# Altium integrated library Xilinx Virtex-II Pro X FPGA.IntLib: 1045 symbols (part 2 of 8)
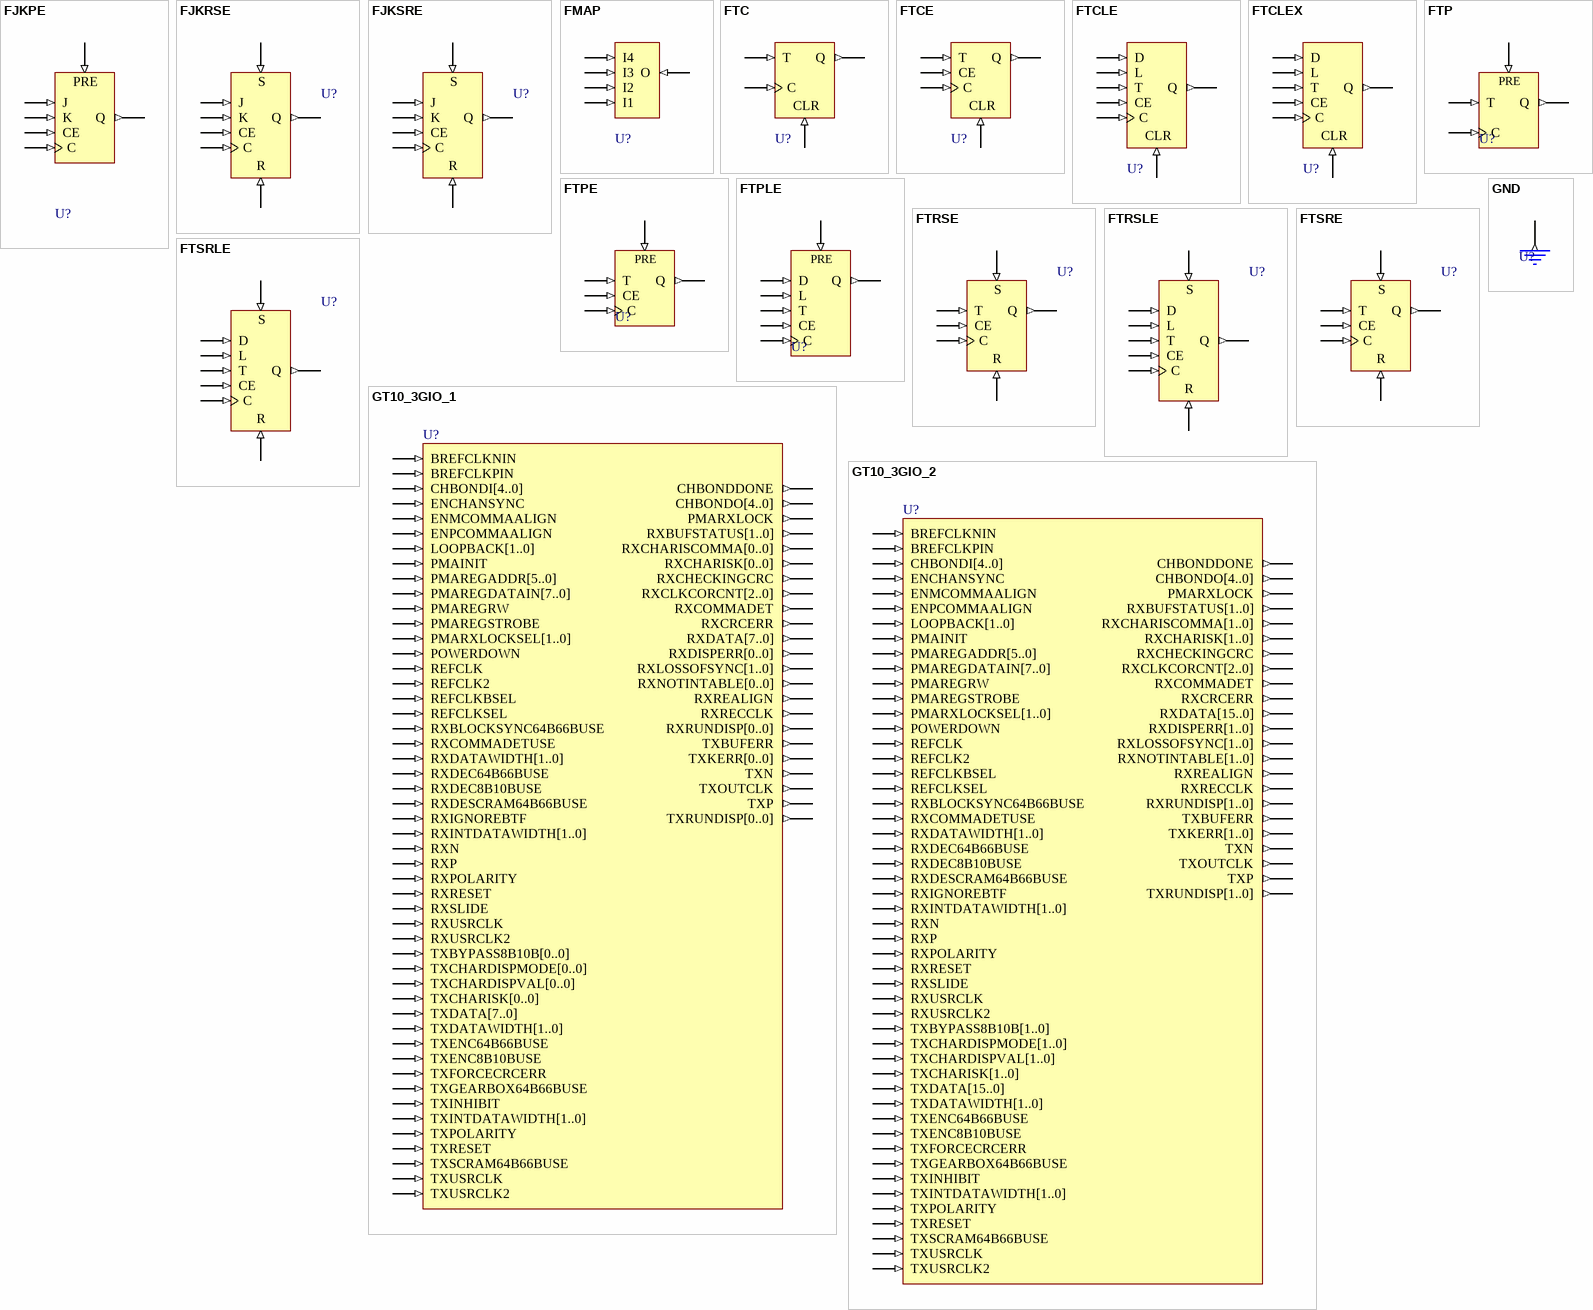
[diagram p36: symbols FJKPE to GT10_3GIO_2]

## GND
designator U?
Ground-Connection Signal Tag; FPGAVendor: Xilinx; Published: 15-Sep-2003; Publisher: Altium Limited; HelpURL: http://toolbox.xilinx.com/docsan/xilinx7/books/docs/lib/lib.pdf
pins: G (out)

## GT10_3GIO_1
designator U?
10-Gigabit Transceiver for High-Speed I/O; FPGAVendor: Xilinx; Note: Supported for Virtex-II Pro X but not for Virtex-II or Virtex-II Pro.; Published: 15-Sep-2003; Publisher: Altium Limited; HelpURL: http://toolbox.xilinx.com/docsan/xilinx7/books/docs/lib/lib.pdf
pins: BREFCLKNIN (in), BREFCLKPIN (in), CHBONDDONE (out), CHBONDI[4..0] (in), CHBONDO[4..0] (out), ENCHANSYNC (in), ENMCOMMAALIGN (in), ENPCOMMAALIGN (in), LOOPBACK[1..0] (in), PMAINIT (in), PMAREGADDR[5..0] (in), PMAREGDATAIN[7..0] (in), PMAREGRW (in), PMAREGSTROBE (in), PMARXLOCK (out), PMARXLOCKSEL[1..0] (in), POWERDOWN (in), REFCLK (in), REFCLK2 (in), REFCLKBSEL (in), REFCLKSEL (in), RXBLOCKSYNC64B66BUSE (in), RXBUFSTATUS[1..0] (out), RXCHARISCOMMA[0..0] (out), RXCHARISK[0..0] (out), RXCHECKINGCRC (out), RXCLKCORCNT[2..0] (out), RXCOMMADET (out), RXCOMMADETUSE (in), RXCRCERR (out), RXDATA[7..0] (out), RXDATAWIDTH[1..0] (in), RXDEC8B10BUSE (in), RXDEC64B66BUSE (in), RXDESCRAM64B66BUSE (in), RXDISPERR[0..0] (out), RXIGNOREBTF (in), RXINTDATAWIDTH[1..0] (in), RXLOSSOFSYNC[1..0] (out), RXN (in), RXNOTINTABLE[0..0] (out), RXP (in), RXPOLARITY (in), RXREALIGN (out), RXRECCLK (out), RXRESET (in), RXRUNDISP[0..0] (out), RXSLIDE (in), RXUSRCLK (in), RXUSRCLK2 (in), TXBUFERR (out), TXBYPASS8B10B[0..0] (in), TXCHARDISPMODE[0..0] (in), TXCHARDISPVAL[0..0] (in), TXCHARISK[0..0] (in), TXDATA[7..0] (in), TXDATAWIDTH[1..0] (in), TXENC8B10BUSE (in), TXENC64B66BUSE (in), TXFORCECRCERR (in), TXGEARBOX64B66BUSE (in), TXINHIBIT (in), TXINTDATAWIDTH[1..0] (in), TXKERR[0..0] (out), TXN (out), TXOUTCLK (out), TXP (out), TXPOLARITY (in), TXRESET (in), TXRUNDISP[0..0] (out), TXSCRAM64B66BUSE (in), TXUSRCLK (in), TXUSRCLK2 (in)

## GT10_3GIO_2
designator U?
10-Gigabit Transceiver for High-Speed I/O; FPGAVendor: Xilinx; Note: Supported for Virtex-II Pro X but not for Virtex-II or Virtex-II Pro.; Published: 15-Sep-2003; Publisher: Altium Limited; HelpURL: http://toolbox.xilinx.com/docsan/xilinx7/books/docs/lib/lib.pdf
pins: BREFCLKNIN (in), BREFCLKPIN (in), CHBONDDONE (out), CHBONDI[4..0] (in), CHBONDO[4..0] (out), ENCHANSYNC (in), ENMCOMMAALIGN (in), ENPCOMMAALIGN (in), LOOPBACK[1..0] (in), PMAINIT (in), PMAREGADDR[5..0] (in), PMAREGDATAIN[7..0] (in), PMAREGRW (in), PMAREGSTROBE (in), PMARXLOCK (out), PMARXLOCKSEL[1..0] (in), POWERDOWN (in), REFCLK (in), REFCLK2 (in), REFCLKBSEL (in), REFCLKSEL (in), RXBLOCKSYNC64B66BUSE (in), RXBUFSTATUS[1..0] (out), RXCHARISCOMMA[1..0] (out), RXCHARISK[1..0] (out), RXCHECKINGCRC (out), RXCLKCORCNT[2..0] (out), RXCOMMADET (out), RXCOMMADETUSE (in), RXCRCERR (out), RXDATA[15..0] (out), RXDATAWIDTH[1..0] (in), RXDEC8B10BUSE (in), RXDEC64B66BUSE (in), RXDESCRAM64B66BUSE (in), RXDISPERR[1..0] (out), RXIGNOREBTF (in), RXINTDATAWIDTH[1..0] (in), RXLOSSOFSYNC[1..0] (out), RXN (in), RXNOTINTABLE[1..0] (out), RXP (in), RXPOLARITY (in), RXREALIGN (out), RXRECCLK (out), RXRESET (in), RXRUNDISP[1..0] (out), RXSLIDE (in), RXUSRCLK (in), RXUSRCLK2 (in), TXBUFERR (out), TXBYPASS8B10B[1..0] (in), TXCHARDISPMODE[1..0] (in), TXCHARDISPVAL[1..0] (in), TXCHARISK[1..0] (in), TXDATA[15..0] (in), TXDATAWIDTH[1..0] (in), TXENC8B10BUSE (in), TXENC64B66BUSE (in), TXFORCECRCERR (in), TXGEARBOX64B66BUSE (in), TXINHIBIT (in), TXINTDATAWIDTH[1..0] (in), TXKERR[1..0] (out), TXN (out), TXOUTCLK (out), TXP (out), TXPOLARITY (in), TXRESET (in), TXRUNDISP[1..0] (out), TXSCRAM64B66BUSE (in), TXUSRCLK (in), TXUSRCLK2 (in)

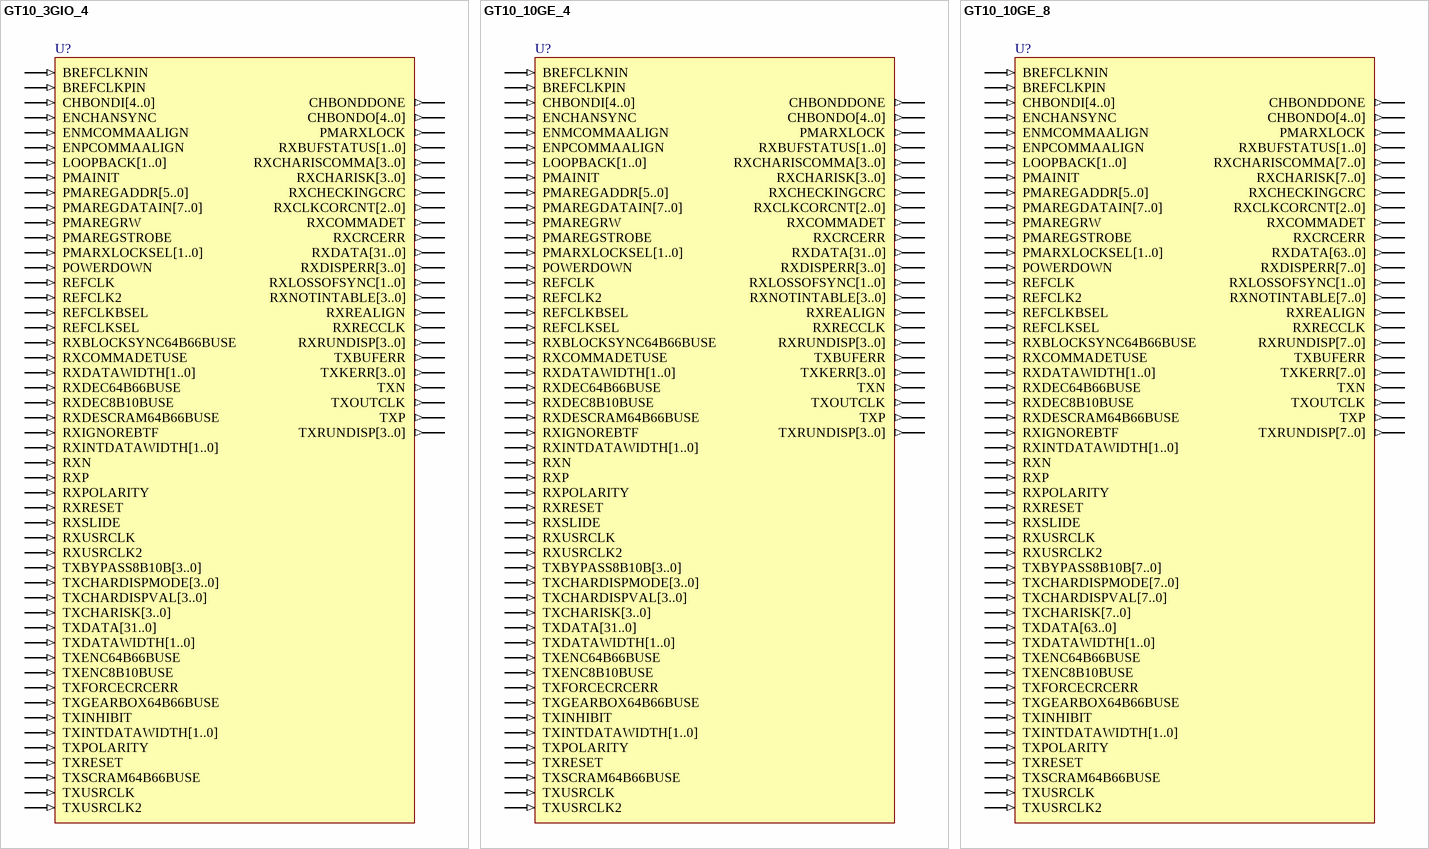
[diagram p5: symbols GT10_3GIO_4 to GT10_10GE_8]

## GT10_3GIO_4
designator U?
10-Gigabit Transceiver for High-Speed I/O; FPGAVendor: Xilinx; Note: Supported for Virtex-II Pro X but not for Virtex-II or Virtex-II Pro.; Published: 15-Sep-2003; Publisher: Altium Limited; HelpURL: http://toolbox.xilinx.com/docsan/xilinx7/books/docs/lib/lib.pdf
pins: BREFCLKNIN (in), BREFCLKPIN (in), CHBONDDONE (out), CHBONDI[4..0] (in), CHBONDO[4..0] (out), ENCHANSYNC (in), ENMCOMMAALIGN (in), ENPCOMMAALIGN (in), LOOPBACK[1..0] (in), PMAINIT (in), PMAREGADDR[5..0] (in), PMAREGDATAIN[7..0] (in), PMAREGRW (in), PMAREGSTROBE (in), PMARXLOCK (out), PMARXLOCKSEL[1..0] (in), POWERDOWN (in), REFCLK (in), REFCLK2 (in), REFCLKBSEL (in), REFCLKSEL (in), RXBLOCKSYNC64B66BUSE (in), RXBUFSTATUS[1..0] (out), RXCHARISCOMMA[3..0] (out), RXCHARISK[3..0] (out), RXCHECKINGCRC (out), RXCLKCORCNT[2..0] (out), RXCOMMADET (out), RXCOMMADETUSE (in), RXCRCERR (out), RXDATA[31..0] (out), RXDATAWIDTH[1..0] (in), RXDEC8B10BUSE (in), RXDEC64B66BUSE (in), RXDESCRAM64B66BUSE (in), RXDISPERR[3..0] (out), RXIGNOREBTF (in), RXINTDATAWIDTH[1..0] (in), RXLOSSOFSYNC[1..0] (out), RXN (in), RXNOTINTABLE[3..0] (out), RXP (in), RXPOLARITY (in), RXREALIGN (out), RXRECCLK (out), RXRESET (in), RXRUNDISP[3..0] (out), RXSLIDE (in), RXUSRCLK (in), RXUSRCLK2 (in), TXBUFERR (out), TXBYPASS8B10B[3..0] (in), TXCHARDISPMODE[3..0] (in), TXCHARDISPVAL[3..0] (in), TXCHARISK[3..0] (in), TXDATA[31..0] (in), TXDATAWIDTH[1..0] (in), TXENC8B10BUSE (in), TXENC64B66BUSE (in), TXFORCECRCERR (in), TXGEARBOX64B66BUSE (in), TXINHIBIT (in), TXINTDATAWIDTH[1..0] (in), TXKERR[3..0] (out), TXN (out), TXOUTCLK (out), TXP (out), TXPOLARITY (in), TXRESET (in), TXRUNDISP[3..0] (out), TXSCRAM64B66BUSE (in), TXUSRCLK (in), TXUSRCLK2 (in)

## GT10_10GE_4
designator U?
10-Gigabit Transceiver for High-Speed I/O; FPGAVendor: Xilinx; Note: Supported for Virtex-II Pro X but not for Virtex-II or Virtex-II Pro.; Published: 15-Sep-2003; Publisher: Altium Limited; HelpURL: http://toolbox.xilinx.com/docsan/xilinx7/books/docs/lib/lib.pdf
pins: BREFCLKNIN (in), BREFCLKPIN (in), CHBONDDONE (out), CHBONDI[4..0] (in), CHBONDO[4..0] (out), ENCHANSYNC (in), ENMCOMMAALIGN (in), ENPCOMMAALIGN (in), LOOPBACK[1..0] (in), PMAINIT (in), PMAREGADDR[5..0] (in), PMAREGDATAIN[7..0] (in), PMAREGRW (in), PMAREGSTROBE (in), PMARXLOCK (out), PMARXLOCKSEL[1..0] (in), POWERDOWN (in), REFCLK (in), REFCLK2 (in), REFCLKBSEL (in), REFCLKSEL (in), RXBLOCKSYNC64B66BUSE (in), RXBUFSTATUS[1..0] (out), RXCHARISCOMMA[3..0] (out), RXCHARISK[3..0] (out), RXCHECKINGCRC (out), RXCLKCORCNT[2..0] (out), RXCOMMADET (out), RXCOMMADETUSE (in), RXCRCERR (out), RXDATA[31..0] (out), RXDATAWIDTH[1..0] (in), RXDEC8B10BUSE (in), RXDEC64B66BUSE (in), RXDESCRAM64B66BUSE (in), RXDISPERR[3..0] (out), RXIGNOREBTF (in), RXINTDATAWIDTH[1..0] (in), RXLOSSOFSYNC[1..0] (out), RXN (in), RXNOTINTABLE[3..0] (out), RXP (in), RXPOLARITY (in), RXREALIGN (out), RXRECCLK (out), RXRESET (in), RXRUNDISP[3..0] (out), RXSLIDE (in), RXUSRCLK (in), RXUSRCLK2 (in), TXBUFERR (out), TXBYPASS8B10B[3..0] (in), TXCHARDISPMODE[3..0] (in), TXCHARDISPVAL[3..0] (in), TXCHARISK[3..0] (in), TXDATA[31..0] (in), TXDATAWIDTH[1..0] (in), TXENC8B10BUSE (in), TXENC64B66BUSE (in), TXFORCECRCERR (in), TXGEARBOX64B66BUSE (in), TXINHIBIT (in), TXINTDATAWIDTH[1..0] (in), TXKERR[3..0] (out), TXN (out), TXOUTCLK (out), TXP (out), TXPOLARITY (in), TXRESET (in), TXRUNDISP[3..0] (out), TXSCRAM64B66BUSE (in), TXUSRCLK (in), TXUSRCLK2 (in)

## GT10_10GE_8
designator U?
10-Gigabit Transceiver for High-Speed I/O; FPGAVendor: Xilinx; Note: Supported for Virtex-II Pro X but not for Virtex-II or Virtex-II Pro.; Published: 15-Sep-2003; Publisher: Altium Limited; HelpURL: http://toolbox.xilinx.com/docsan/xilinx7/books/docs/lib/lib.pdf
pins: BREFCLKNIN (in), BREFCLKPIN (in), CHBONDDONE (out), CHBONDI[4..0] (in), CHBONDO[4..0] (out), ENCHANSYNC (in), ENMCOMMAALIGN (in), ENPCOMMAALIGN (in), LOOPBACK[1..0] (in), PMAINIT (in), PMAREGADDR[5..0] (in), PMAREGDATAIN[7..0] (in), PMAREGRW (in), PMAREGSTROBE (in), PMARXLOCK (out), PMARXLOCKSEL[1..0] (in), POWERDOWN (in), REFCLK (in), REFCLK2 (in), REFCLKBSEL (in), REFCLKSEL (in), RXBLOCKSYNC64B66BUSE (in), RXBUFSTATUS[1..0] (out), RXCHARISCOMMA[7..0] (out), RXCHARISK[7..0] (out), RXCHECKINGCRC (out), RXCLKCORCNT[2..0] (out), RXCOMMADET (out), RXCOMMADETUSE (in), RXCRCERR (out), RXDATA[63..0] (out), RXDATAWIDTH[1..0] (in), RXDEC8B10BUSE (in), RXDEC64B66BUSE (in), RXDESCRAM64B66BUSE (in), RXDISPERR[7..0] (out), RXIGNOREBTF (in), RXINTDATAWIDTH[1..0] (in), RXLOSSOFSYNC[1..0] (out), RXN (in), RXNOTINTABLE[7..0] (out), RXP (in), RXPOLARITY (in), RXREALIGN (out), RXRECCLK (out), RXRESET (in), RXRUNDISP[7..0] (out), RXSLIDE (in), RXUSRCLK (in), RXUSRCLK2 (in), TXBUFERR (out), TXBYPASS8B10B[7..0] (in), TXCHARDISPMODE[7..0] (in), TXCHARDISPVAL[7..0] (in), TXCHARISK[7..0] (in), TXDATA[63..0] (in), TXDATAWIDTH[1..0] (in), TXENC8B10BUSE (in), TXENC64B66BUSE (in), TXFORCECRCERR (in), TXGEARBOX64B66BUSE (in), TXINHIBIT (in), TXINTDATAWIDTH[1..0] (in), TXKERR[7..0] (out), TXN (out), TXOUTCLK (out), TXP (out), TXPOLARITY (in), TXRESET (in), TXRUNDISP[7..0] (out), TXSCRAM64B66BUSE (in), TXUSRCLK (in), TXUSRCLK2 (in)

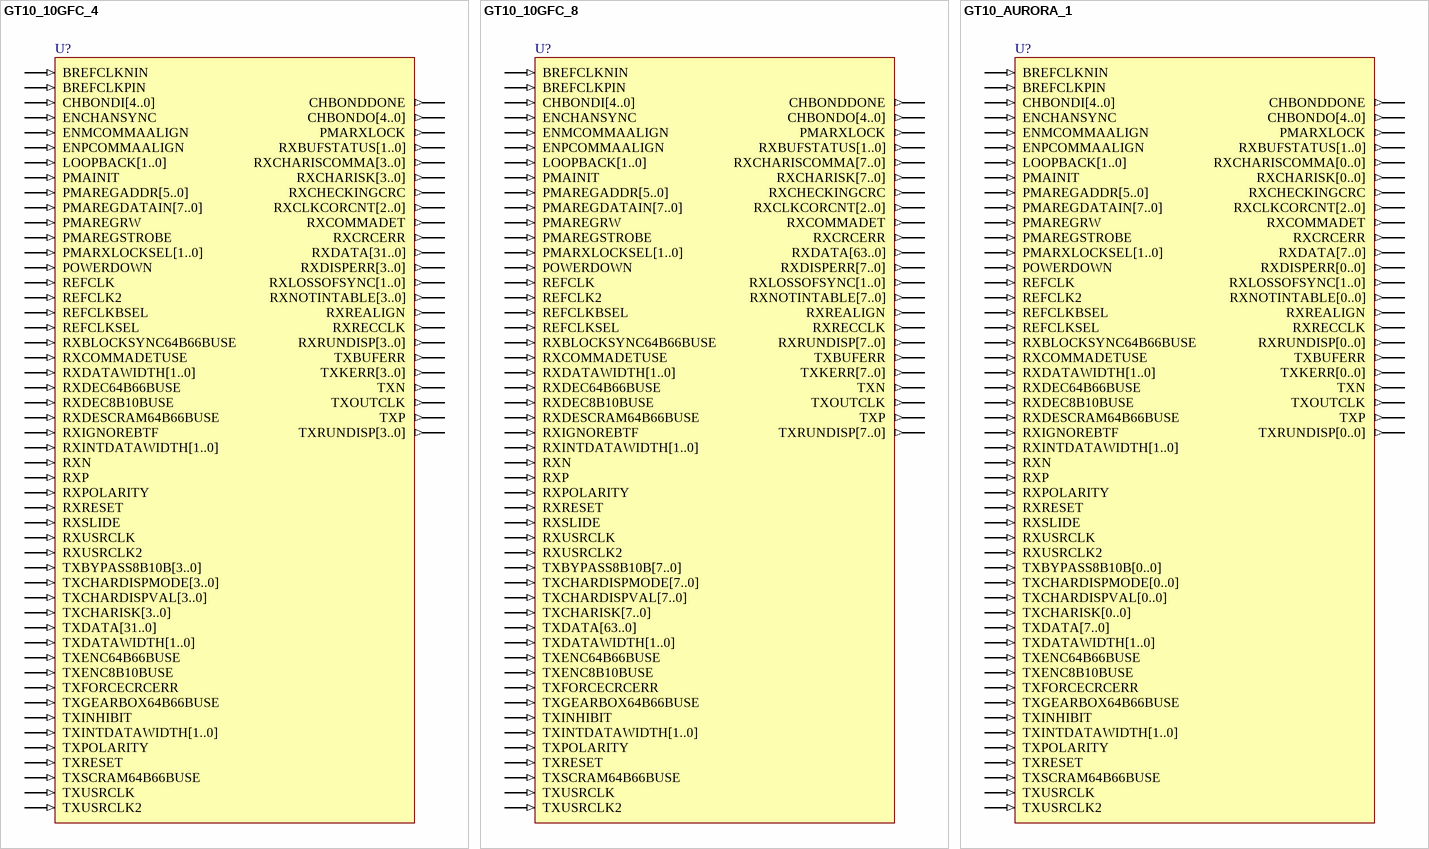
[diagram p6: symbols GT10_10GFC_4 to GT10_AURORA_1]

## GT10_10GFC_4
designator U?
10-Gigabit Transceiver for High-Speed I/O; FPGAVendor: Xilinx; Note: Supported for Virtex-II Pro X but not for Virtex-II or Virtex-II Pro.; Published: 15-Sep-2003; Publisher: Altium Limited; HelpURL: http://toolbox.xilinx.com/docsan/xilinx7/books/docs/lib/lib.pdf
pins: BREFCLKNIN (in), BREFCLKPIN (in), CHBONDDONE (out), CHBONDI[4..0] (in), CHBONDO[4..0] (out), ENCHANSYNC (in), ENMCOMMAALIGN (in), ENPCOMMAALIGN (in), LOOPBACK[1..0] (in), PMAINIT (in), PMAREGADDR[5..0] (in), PMAREGDATAIN[7..0] (in), PMAREGRW (in), PMAREGSTROBE (in), PMARXLOCK (out), PMARXLOCKSEL[1..0] (in), POWERDOWN (in), REFCLK (in), REFCLK2 (in), REFCLKBSEL (in), REFCLKSEL (in), RXBLOCKSYNC64B66BUSE (in), RXBUFSTATUS[1..0] (out), RXCHARISCOMMA[3..0] (out), RXCHARISK[3..0] (out), RXCHECKINGCRC (out), RXCLKCORCNT[2..0] (out), RXCOMMADET (out), RXCOMMADETUSE (in), RXCRCERR (out), RXDATA[31..0] (out), RXDATAWIDTH[1..0] (in), RXDEC8B10BUSE (in), RXDEC64B66BUSE (in), RXDESCRAM64B66BUSE (in), RXDISPERR[3..0] (out), RXIGNOREBTF (in), RXINTDATAWIDTH[1..0] (in), RXLOSSOFSYNC[1..0] (out), RXN (in), RXNOTINTABLE[3..0] (out), RXP (in), RXPOLARITY (in), RXREALIGN (out), RXRECCLK (out), RXRESET (in), RXRUNDISP[3..0] (out), RXSLIDE (in), RXUSRCLK (in), RXUSRCLK2 (in), TXBUFERR (out), TXBYPASS8B10B[3..0] (in), TXCHARDISPMODE[3..0] (in), TXCHARDISPVAL[3..0] (in), TXCHARISK[3..0] (in), TXDATA[31..0] (in), TXDATAWIDTH[1..0] (in), TXENC8B10BUSE (in), TXENC64B66BUSE (in), TXFORCECRCERR (in), TXGEARBOX64B66BUSE (in), TXINHIBIT (in), TXINTDATAWIDTH[1..0] (in), TXKERR[3..0] (out), TXN (out), TXOUTCLK (out), TXP (out), TXPOLARITY (in), TXRESET (in), TXRUNDISP[3..0] (out), TXSCRAM64B66BUSE (in), TXUSRCLK (in), TXUSRCLK2 (in)

## GT10_10GFC_8
designator U?
10-Gigabit Transceiver for High-Speed I/O; FPGAVendor: Xilinx; Note: Supported for Virtex-II Pro X but not for Virtex-II or Virtex-II Pro.; Published: 15-Sep-2003; Publisher: Altium Limited; HelpURL: http://toolbox.xilinx.com/docsan/xilinx7/books/docs/lib/lib.pdf
pins: BREFCLKNIN (in), BREFCLKPIN (in), CHBONDDONE (out), CHBONDI[4..0] (in), CHBONDO[4..0] (out), ENCHANSYNC (in), ENMCOMMAALIGN (in), ENPCOMMAALIGN (in), LOOPBACK[1..0] (in), PMAINIT (in), PMAREGADDR[5..0] (in), PMAREGDATAIN[7..0] (in), PMAREGRW (in), PMAREGSTROBE (in), PMARXLOCK (out), PMARXLOCKSEL[1..0] (in), POWERDOWN (in), REFCLK (in), REFCLK2 (in), REFCLKBSEL (in), REFCLKSEL (in), RXBLOCKSYNC64B66BUSE (in), RXBUFSTATUS[1..0] (out), RXCHARISCOMMA[7..0] (out), RXCHARISK[7..0] (out), RXCHECKINGCRC (out), RXCLKCORCNT[2..0] (out), RXCOMMADET (out), RXCOMMADETUSE (in), RXCRCERR (out), RXDATA[63..0] (out), RXDATAWIDTH[1..0] (in), RXDEC8B10BUSE (in), RXDEC64B66BUSE (in), RXDESCRAM64B66BUSE (in), RXDISPERR[7..0] (out), RXIGNOREBTF (in), RXINTDATAWIDTH[1..0] (in), RXLOSSOFSYNC[1..0] (out), RXN (in), RXNOTINTABLE[7..0] (out), RXP (in), RXPOLARITY (in), RXREALIGN (out), RXRECCLK (out), RXRESET (in), RXRUNDISP[7..0] (out), RXSLIDE (in), RXUSRCLK (in), RXUSRCLK2 (in), TXBUFERR (out), TXBYPASS8B10B[7..0] (in), TXCHARDISPMODE[7..0] (in), TXCHARDISPVAL[7..0] (in), TXCHARISK[7..0] (in), TXDATA[63..0] (in), TXDATAWIDTH[1..0] (in), TXENC8B10BUSE (in), TXENC64B66BUSE (in), TXFORCECRCERR (in), TXGEARBOX64B66BUSE (in), TXINHIBIT (in), TXINTDATAWIDTH[1..0] (in), TXKERR[7..0] (out), TXN (out), TXOUTCLK (out), TXP (out), TXPOLARITY (in), TXRESET (in), TXRUNDISP[7..0] (out), TXSCRAM64B66BUSE (in), TXUSRCLK (in), TXUSRCLK2 (in)

## GT10_AURORA_1
designator U?
10-Gigabit Transceiver for High-Speed I/O; FPGAVendor: Xilinx; Note: Supported for Virtex-II Pro X but not for Virtex-II or Virtex-II Pro.; Published: 15-Sep-2003; Publisher: Altium Limited; HelpURL: http://toolbox.xilinx.com/docsan/xilinx7/books/docs/lib/lib.pdf
pins: BREFCLKNIN (in), BREFCLKPIN (in), CHBONDDONE (out), CHBONDI[4..0] (in), CHBONDO[4..0] (out), ENCHANSYNC (in), ENMCOMMAALIGN (in), ENPCOMMAALIGN (in), LOOPBACK[1..0] (in), PMAINIT (in), PMAREGADDR[5..0] (in), PMAREGDATAIN[7..0] (in), PMAREGRW (in), PMAREGSTROBE (in), PMARXLOCK (out), PMARXLOCKSEL[1..0] (in), POWERDOWN (in), REFCLK (in), REFCLK2 (in), REFCLKBSEL (in), REFCLKSEL (in), RXBLOCKSYNC64B66BUSE (in), RXBUFSTATUS[1..0] (out), RXCHARISCOMMA[0..0] (out), RXCHARISK[0..0] (out), RXCHECKINGCRC (out), RXCLKCORCNT[2..0] (out), RXCOMMADET (out), RXCOMMADETUSE (in), RXCRCERR (out), RXDATA[7..0] (out), RXDATAWIDTH[1..0] (in), RXDEC8B10BUSE (in), RXDEC64B66BUSE (in), RXDESCRAM64B66BUSE (in), RXDISPERR[0..0] (out), RXIGNOREBTF (in), RXINTDATAWIDTH[1..0] (in), RXLOSSOFSYNC[1..0] (out), RXN (in), RXNOTINTABLE[0..0] (out), RXP (in), RXPOLARITY (in), RXREALIGN (out), RXRECCLK (out), RXRESET (in), RXRUNDISP[0..0] (out), RXSLIDE (in), RXUSRCLK (in), RXUSRCLK2 (in), TXBUFERR (out), TXBYPASS8B10B[0..0] (in), TXCHARDISPMODE[0..0] (in), TXCHARDISPVAL[0..0] (in), TXCHARISK[0..0] (in), TXDATA[7..0] (in), TXDATAWIDTH[1..0] (in), TXENC8B10BUSE (in), TXENC64B66BUSE (in), TXFORCECRCERR (in), TXGEARBOX64B66BUSE (in), TXINHIBIT (in), TXINTDATAWIDTH[1..0] (in), TXKERR[0..0] (out), TXN (out), TXOUTCLK (out), TXP (out), TXPOLARITY (in), TXRESET (in), TXRUNDISP[0..0] (out), TXSCRAM64B66BUSE (in), TXUSRCLK (in), TXUSRCLK2 (in)

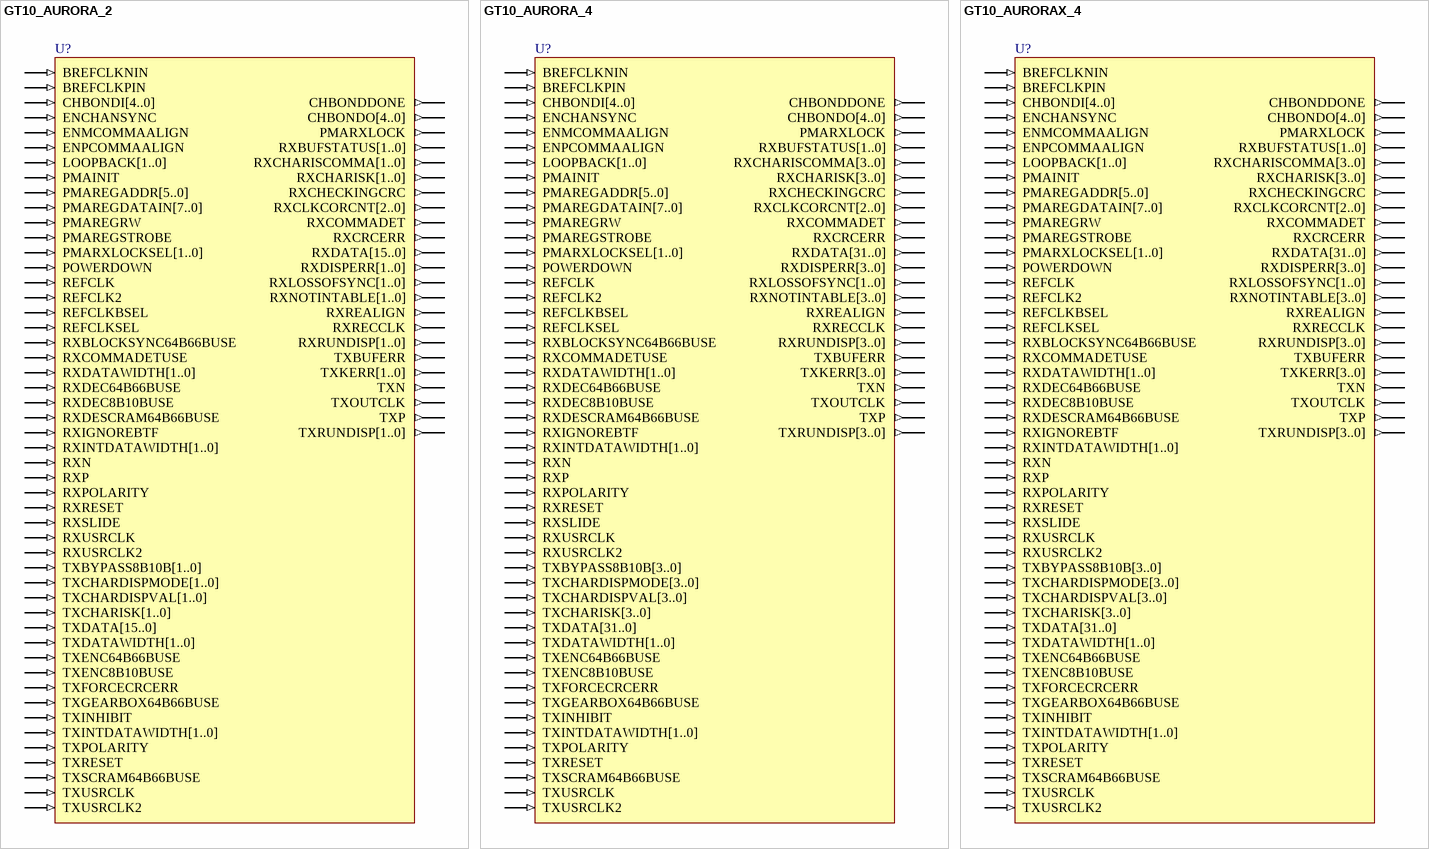
[diagram p7: symbols GT10_AURORA_2 to GT10_AURORAX_4]

## GT10_AURORA_2
designator U?
10-Gigabit Transceiver for High-Speed I/O; FPGAVendor: Xilinx; Note: Supported for Virtex-II Pro X but not for Virtex-II or Virtex-II Pro.; Published: 15-Sep-2003; Publisher: Altium Limited; HelpURL: http://toolbox.xilinx.com/docsan/xilinx7/books/docs/lib/lib.pdf
pins: BREFCLKNIN (in), BREFCLKPIN (in), CHBONDDONE (out), CHBONDI[4..0] (in), CHBONDO[4..0] (out), ENCHANSYNC (in), ENMCOMMAALIGN (in), ENPCOMMAALIGN (in), LOOPBACK[1..0] (in), PMAINIT (in), PMAREGADDR[5..0] (in), PMAREGDATAIN[7..0] (in), PMAREGRW (in), PMAREGSTROBE (in), PMARXLOCK (out), PMARXLOCKSEL[1..0] (in), POWERDOWN (in), REFCLK (in), REFCLK2 (in), REFCLKBSEL (in), REFCLKSEL (in), RXBLOCKSYNC64B66BUSE (in), RXBUFSTATUS[1..0] (out), RXCHARISCOMMA[1..0] (out), RXCHARISK[1..0] (out), RXCHECKINGCRC (out), RXCLKCORCNT[2..0] (out), RXCOMMADET (out), RXCOMMADETUSE (in), RXCRCERR (out), RXDATA[15..0] (out), RXDATAWIDTH[1..0] (in), RXDEC8B10BUSE (in), RXDEC64B66BUSE (in), RXDESCRAM64B66BUSE (in), RXDISPERR[1..0] (out), RXIGNOREBTF (in), RXINTDATAWIDTH[1..0] (in), RXLOSSOFSYNC[1..0] (out), RXN (in), RXNOTINTABLE[1..0] (out), RXP (in), RXPOLARITY (in), RXREALIGN (out), RXRECCLK (out), RXRESET (in), RXRUNDISP[1..0] (out), RXSLIDE (in), RXUSRCLK (in), RXUSRCLK2 (in), TXBUFERR (out), TXBYPASS8B10B[1..0] (in), TXCHARDISPMODE[1..0] (in), TXCHARDISPVAL[1..0] (in), TXCHARISK[1..0] (in), TXDATA[15..0] (in), TXDATAWIDTH[1..0] (in), TXENC8B10BUSE (in), TXENC64B66BUSE (in), TXFORCECRCERR (in), TXGEARBOX64B66BUSE (in), TXINHIBIT (in), TXINTDATAWIDTH[1..0] (in), TXKERR[1..0] (out), TXN (out), TXOUTCLK (out), TXP (out), TXPOLARITY (in), TXRESET (in), TXRUNDISP[1..0] (out), TXSCRAM64B66BUSE (in), TXUSRCLK (in), TXUSRCLK2 (in)

## GT10_AURORA_4
designator U?
10-Gigabit Transceiver for High-Speed I/O; FPGAVendor: Xilinx; Note: Supported for Virtex-II Pro X but not for Virtex-II or Virtex-II Pro.; Published: 15-Sep-2003; Publisher: Altium Limited; HelpURL: http://toolbox.xilinx.com/docsan/xilinx7/books/docs/lib/lib.pdf
pins: BREFCLKNIN (in), BREFCLKPIN (in), CHBONDDONE (out), CHBONDI[4..0] (in), CHBONDO[4..0] (out), ENCHANSYNC (in), ENMCOMMAALIGN (in), ENPCOMMAALIGN (in), LOOPBACK[1..0] (in), PMAINIT (in), PMAREGADDR[5..0] (in), PMAREGDATAIN[7..0] (in), PMAREGRW (in), PMAREGSTROBE (in), PMARXLOCK (out), PMARXLOCKSEL[1..0] (in), POWERDOWN (in), REFCLK (in), REFCLK2 (in), REFCLKBSEL (in), REFCLKSEL (in), RXBLOCKSYNC64B66BUSE (in), RXBUFSTATUS[1..0] (out), RXCHARISCOMMA[3..0] (out), RXCHARISK[3..0] (out), RXCHECKINGCRC (out), RXCLKCORCNT[2..0] (out), RXCOMMADET (out), RXCOMMADETUSE (in), RXCRCERR (out), RXDATA[31..0] (out), RXDATAWIDTH[1..0] (in), RXDEC8B10BUSE (in), RXDEC64B66BUSE (in), RXDESCRAM64B66BUSE (in), RXDISPERR[3..0] (out), RXIGNOREBTF (in), RXINTDATAWIDTH[1..0] (in), RXLOSSOFSYNC[1..0] (out), RXN (in), RXNOTINTABLE[3..0] (out), RXP (in), RXPOLARITY (in), RXREALIGN (out), RXRECCLK (out), RXRESET (in), RXRUNDISP[3..0] (out), RXSLIDE (in), RXUSRCLK (in), RXUSRCLK2 (in), TXBUFERR (out), TXBYPASS8B10B[3..0] (in), TXCHARDISPMODE[3..0] (in), TXCHARDISPVAL[3..0] (in), TXCHARISK[3..0] (in), TXDATA[31..0] (in), TXDATAWIDTH[1..0] (in), TXENC8B10BUSE (in), TXENC64B66BUSE (in), TXFORCECRCERR (in), TXGEARBOX64B66BUSE (in), TXINHIBIT (in), TXINTDATAWIDTH[1..0] (in), TXKERR[3..0] (out), TXN (out), TXOUTCLK (out), TXP (out), TXPOLARITY (in), TXRESET (in), TXRUNDISP[3..0] (out), TXSCRAM64B66BUSE (in), TXUSRCLK (in), TXUSRCLK2 (in)

## GT10_AURORAX_4
designator U?
10-Gigabit Transceiver for High-Speed I/O; FPGAVendor: Xilinx; Note: Supported for Virtex-II Pro X but not for Virtex-II or Virtex-II Pro.; Published: 15-Sep-2003; Publisher: Altium Limited; HelpURL: http://toolbox.xilinx.com/docsan/xilinx7/books/docs/lib/lib.pdf
pins: BREFCLKNIN (in), BREFCLKPIN (in), CHBONDDONE (out), CHBONDI[4..0] (in), CHBONDO[4..0] (out), ENCHANSYNC (in), ENMCOMMAALIGN (in), ENPCOMMAALIGN (in), LOOPBACK[1..0] (in), PMAINIT (in), PMAREGADDR[5..0] (in), PMAREGDATAIN[7..0] (in), PMAREGRW (in), PMAREGSTROBE (in), PMARXLOCK (out), PMARXLOCKSEL[1..0] (in), POWERDOWN (in), REFCLK (in), REFCLK2 (in), REFCLKBSEL (in), REFCLKSEL (in), RXBLOCKSYNC64B66BUSE (in), RXBUFSTATUS[1..0] (out), RXCHARISCOMMA[3..0] (out), RXCHARISK[3..0] (out), RXCHECKINGCRC (out), RXCLKCORCNT[2..0] (out), RXCOMMADET (out), RXCOMMADETUSE (in), RXCRCERR (out), RXDATA[31..0] (out), RXDATAWIDTH[1..0] (in), RXDEC8B10BUSE (in), RXDEC64B66BUSE (in), RXDESCRAM64B66BUSE (in), RXDISPERR[3..0] (out), RXIGNOREBTF (in), RXINTDATAWIDTH[1..0] (in), RXLOSSOFSYNC[1..0] (out), RXN (in), RXNOTINTABLE[3..0] (out), RXP (in), RXPOLARITY (in), RXREALIGN (out), RXRECCLK (out), RXRESET (in), RXRUNDISP[3..0] (out), RXSLIDE (in), RXUSRCLK (in), RXUSRCLK2 (in), TXBUFERR (out), TXBYPASS8B10B[3..0] (in), TXCHARDISPMODE[3..0] (in), TXCHARDISPVAL[3..0] (in), TXCHARISK[3..0] (in), TXDATA[31..0] (in), TXDATAWIDTH[1..0] (in), TXENC8B10BUSE (in), TXENC64B66BUSE (in), TXFORCECRCERR (in), TXGEARBOX64B66BUSE (in), TXINHIBIT (in), TXINTDATAWIDTH[1..0] (in), TXKERR[3..0] (out), TXN (out), TXOUTCLK (out), TXP (out), TXPOLARITY (in), TXRESET (in), TXRUNDISP[3..0] (out), TXSCRAM64B66BUSE (in), TXUSRCLK (in), TXUSRCLK2 (in)

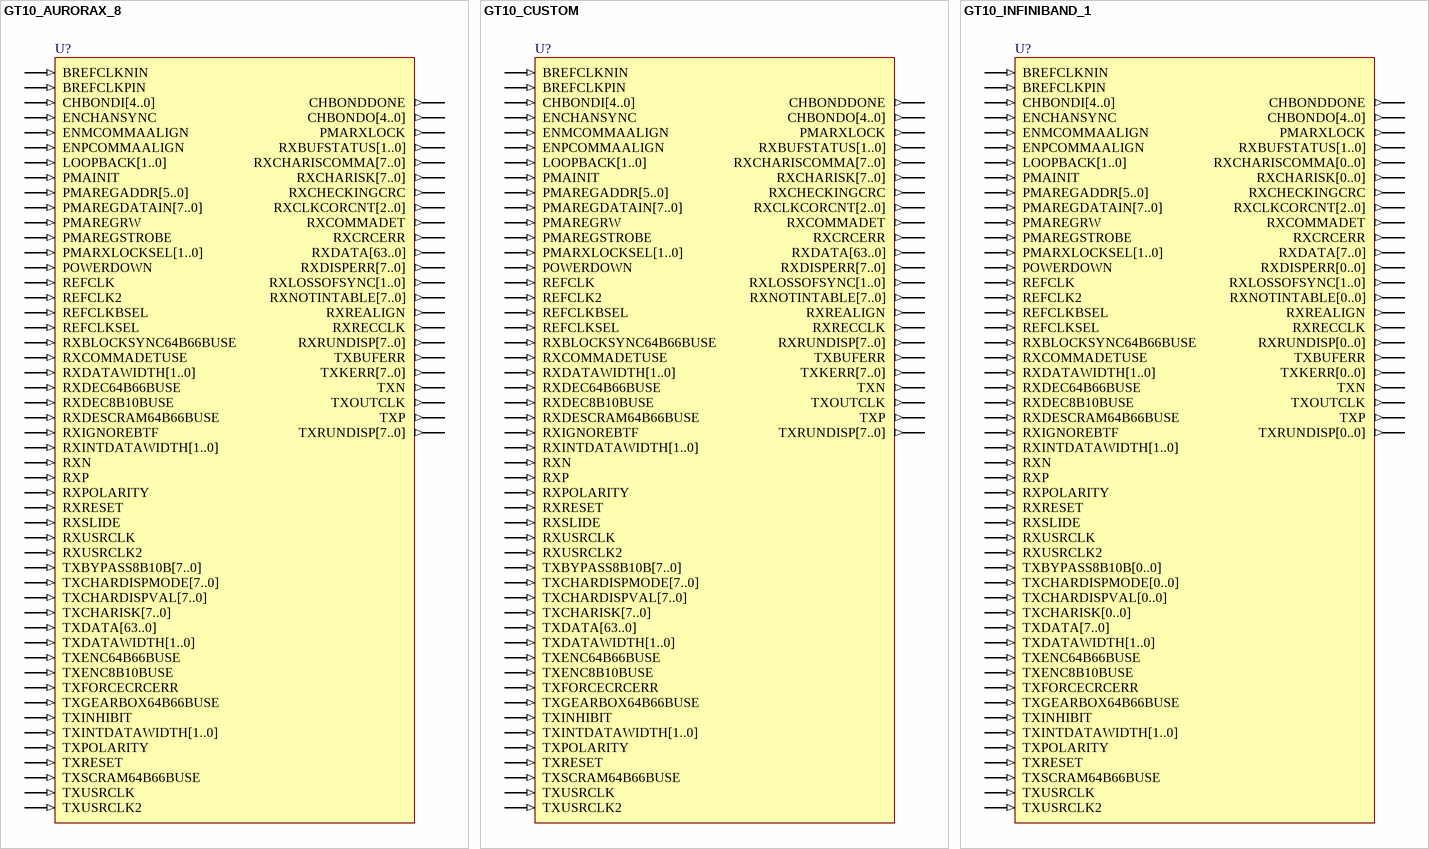
[diagram p8: symbols GT10_AURORAX_8 to GT10_INFINIBAND_1]

## GT10_AURORAX_8
designator U?
10-Gigabit Transceiver for High-Speed I/O; FPGAVendor: Xilinx; Note: Supported for Virtex-II Pro X but not for Virtex-II or Virtex-II Pro.; Published: 15-Sep-2003; Publisher: Altium Limited; HelpURL: http://toolbox.xilinx.com/docsan/xilinx7/books/docs/lib/lib.pdf
pins: BREFCLKNIN (in), BREFCLKPIN (in), CHBONDDONE (out), CHBONDI[4..0] (in), CHBONDO[4..0] (out), ENCHANSYNC (in), ENMCOMMAALIGN (in), ENPCOMMAALIGN (in), LOOPBACK[1..0] (in), PMAINIT (in), PMAREGADDR[5..0] (in), PMAREGDATAIN[7..0] (in), PMAREGRW (in), PMAREGSTROBE (in), PMARXLOCK (out), PMARXLOCKSEL[1..0] (in), POWERDOWN (in), REFCLK (in), REFCLK2 (in), REFCLKBSEL (in), REFCLKSEL (in), RXBLOCKSYNC64B66BUSE (in), RXBUFSTATUS[1..0] (out), RXCHARISCOMMA[7..0] (out), RXCHARISK[7..0] (out), RXCHECKINGCRC (out), RXCLKCORCNT[2..0] (out), RXCOMMADET (out), RXCOMMADETUSE (in), RXCRCERR (out), RXDATA[63..0] (out), RXDATAWIDTH[1..0] (in), RXDEC8B10BUSE (in), RXDEC64B66BUSE (in), RXDESCRAM64B66BUSE (in), RXDISPERR[7..0] (out), RXIGNOREBTF (in), RXINTDATAWIDTH[1..0] (in), RXLOSSOFSYNC[1..0] (out), RXN (in), RXNOTINTABLE[7..0] (out), RXP (in), RXPOLARITY (in), RXREALIGN (out), RXRECCLK (out), RXRESET (in), RXRUNDISP[7..0] (out), RXSLIDE (in), RXUSRCLK (in), RXUSRCLK2 (in), TXBUFERR (out), TXBYPASS8B10B[7..0] (in), TXCHARDISPMODE[7..0] (in), TXCHARDISPVAL[7..0] (in), TXCHARISK[7..0] (in), TXDATA[63..0] (in), TXDATAWIDTH[1..0] (in), TXENC8B10BUSE (in), TXENC64B66BUSE (in), TXFORCECRCERR (in), TXGEARBOX64B66BUSE (in), TXINHIBIT (in), TXINTDATAWIDTH[1..0] (in), TXKERR[7..0] (out), TXN (out), TXOUTCLK (out), TXP (out), TXPOLARITY (in), TXRESET (in), TXRUNDISP[7..0] (out), TXSCRAM64B66BUSE (in), TXUSRCLK (in), TXUSRCLK2 (in)

## GT10_CUSTOM
designator U?
10-Gigabit Transceiver for High-Speed I/O; FPGAVendor: Xilinx; Note: Supported for Virtex-II Pro X but not for Virtex-II or Virtex-II Pro.; Published: 15-Sep-2003; Publisher: Altium Limited; HelpURL: http://toolbox.xilinx.com/docsan/xilinx7/books/docs/lib/lib.pdf
pins: BREFCLKNIN (in), BREFCLKPIN (in), CHBONDDONE (out), CHBONDI[4..0] (in), CHBONDO[4..0] (out), ENCHANSYNC (in), ENMCOMMAALIGN (in), ENPCOMMAALIGN (in), LOOPBACK[1..0] (in), PMAINIT (in), PMAREGADDR[5..0] (in), PMAREGDATAIN[7..0] (in), PMAREGRW (in), PMAREGSTROBE (in), PMARXLOCK (out), PMARXLOCKSEL[1..0] (in), POWERDOWN (in), REFCLK (in), REFCLK2 (in), REFCLKBSEL (in), REFCLKSEL (in), RXBLOCKSYNC64B66BUSE (in), RXBUFSTATUS[1..0] (out), RXCHARISCOMMA[7..0] (out), RXCHARISK[7..0] (out), RXCHECKINGCRC (out), RXCLKCORCNT[2..0] (out), RXCOMMADET (out), RXCOMMADETUSE (in), RXCRCERR (out), RXDATA[63..0] (out), RXDATAWIDTH[1..0] (in), RXDEC8B10BUSE (in), RXDEC64B66BUSE (in), RXDESCRAM64B66BUSE (in), RXDISPERR[7..0] (out), RXIGNOREBTF (in), RXINTDATAWIDTH[1..0] (in), RXLOSSOFSYNC[1..0] (out), RXN (in), RXNOTINTABLE[7..0] (out), RXP (in), RXPOLARITY (in), RXREALIGN (out), RXRECCLK (out), RXRESET (in), RXRUNDISP[7..0] (out), RXSLIDE (in), RXUSRCLK (in), RXUSRCLK2 (in), TXBUFERR (out), TXBYPASS8B10B[7..0] (in), TXCHARDISPMODE[7..0] (in), TXCHARDISPVAL[7..0] (in), TXCHARISK[7..0] (in), TXDATA[63..0] (in), TXDATAWIDTH[1..0] (in), TXENC8B10BUSE (in), TXENC64B66BUSE (in), TXFORCECRCERR (in), TXGEARBOX64B66BUSE (in), TXINHIBIT (in), TXINTDATAWIDTH[1..0] (in), TXKERR[7..0] (out), TXN (out), TXOUTCLK (out), TXP (out), TXPOLARITY (in), TXRESET (in), TXRUNDISP[7..0] (out), TXSCRAM64B66BUSE (in), TXUSRCLK (in), TXUSRCLK2 (in)

## GT10_INFINIBAND_1
designator U?
10-Gigabit Transceiver for High-Speed I/O; FPGAVendor: Xilinx; Note: Supported for Virtex-II Pro X but not for Virtex-II or Virtex-II Pro.; Published: 15-Sep-2003; Publisher: Altium Limited; HelpURL: http://toolbox.xilinx.com/docsan/xilinx7/books/docs/lib/lib.pdf
pins: BREFCLKNIN (in), BREFCLKPIN (in), CHBONDDONE (out), CHBONDI[4..0] (in), CHBONDO[4..0] (out), ENCHANSYNC (in), ENMCOMMAALIGN (in), ENPCOMMAALIGN (in), LOOPBACK[1..0] (in), PMAINIT (in), PMAREGADDR[5..0] (in), PMAREGDATAIN[7..0] (in), PMAREGRW (in), PMAREGSTROBE (in), PMARXLOCK (out), PMARXLOCKSEL[1..0] (in), POWERDOWN (in), REFCLK (in), REFCLK2 (in), REFCLKBSEL (in), REFCLKSEL (in), RXBLOCKSYNC64B66BUSE (in), RXBUFSTATUS[1..0] (out), RXCHARISCOMMA[0..0] (out), RXCHARISK[0..0] (out), RXCHECKINGCRC (out), RXCLKCORCNT[2..0] (out), RXCOMMADET (out), RXCOMMADETUSE (in), RXCRCERR (out), RXDATA[7..0] (out), RXDATAWIDTH[1..0] (in), RXDEC8B10BUSE (in), RXDEC64B66BUSE (in), RXDESCRAM64B66BUSE (in), RXDISPERR[0..0] (out), RXIGNOREBTF (in), RXINTDATAWIDTH[1..0] (in), RXLOSSOFSYNC[1..0] (out), RXN (in), RXNOTINTABLE[0..0] (out), RXP (in), RXPOLARITY (in), RXREALIGN (out), RXRECCLK (out), RXRESET (in), RXRUNDISP[0..0] (out), RXSLIDE (in), RXUSRCLK (in), RXUSRCLK2 (in), TXBUFERR (out), TXBYPASS8B10B[0..0] (in), TXCHARDISPMODE[0..0] (in), TXCHARDISPVAL[0..0] (in), TXCHARISK[0..0] (in), TXDATA[7..0] (in), TXDATAWIDTH[1..0] (in), TXENC8B10BUSE (in), TXENC64B66BUSE (in), TXFORCECRCERR (in), TXGEARBOX64B66BUSE (in), TXINHIBIT (in), TXINTDATAWIDTH[1..0] (in), TXKERR[0..0] (out), TXN (out), TXOUTCLK (out), TXP (out), TXPOLARITY (in), TXRESET (in), TXRUNDISP[0..0] (out), TXSCRAM64B66BUSE (in), TXUSRCLK (in), TXUSRCLK2 (in)

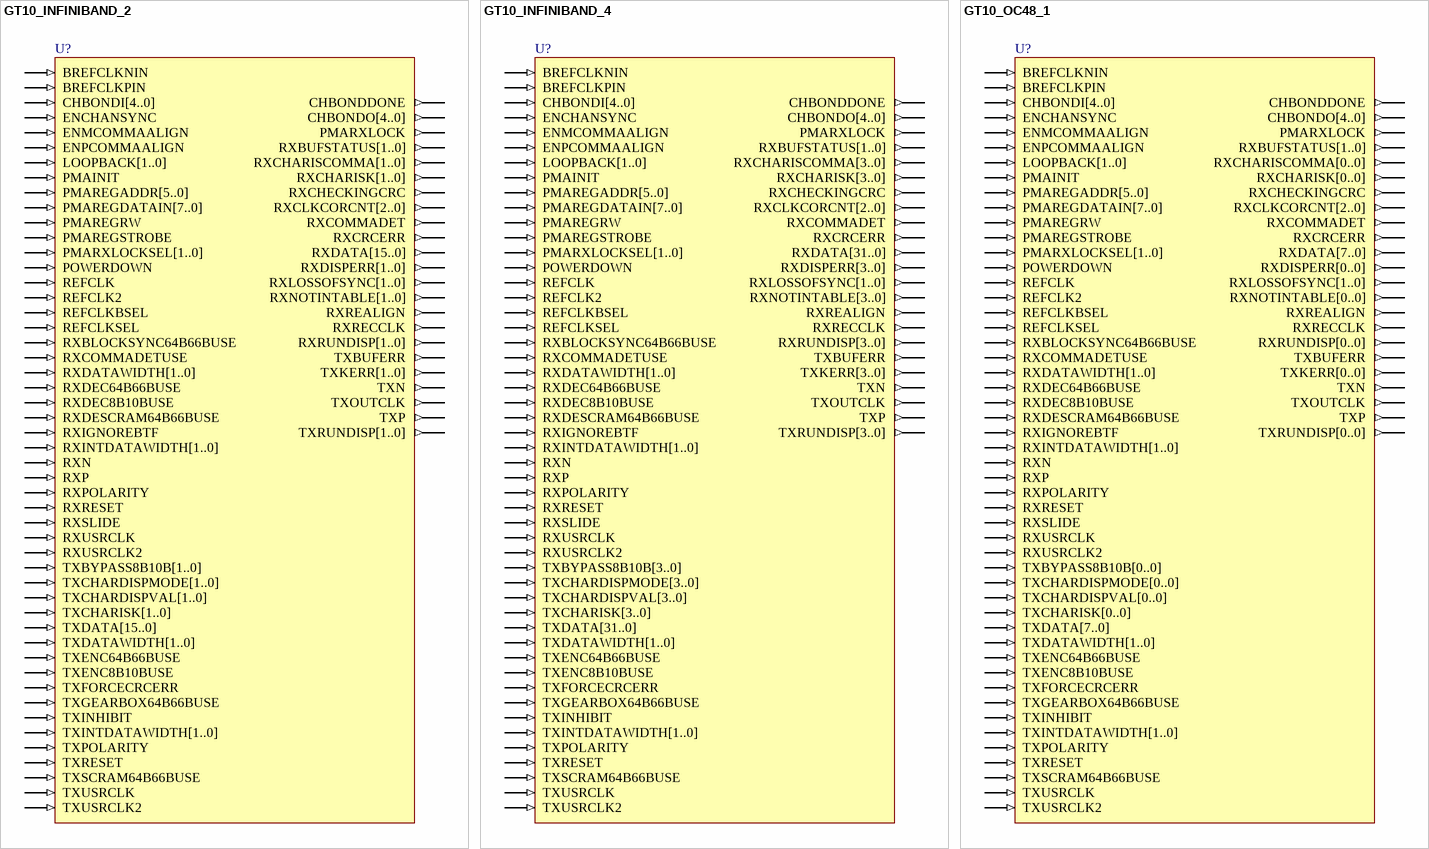
[diagram p9: symbols GT10_INFINIBAND_2 to GT10_OC48_1]

## GT10_INFINIBAND_2
designator U?
10-Gigabit Transceiver for High-Speed I/O; FPGAVendor: Xilinx; Note: Supported for Virtex-II Pro X but not for Virtex-II or Virtex-II Pro.; Published: 15-Sep-2003; Publisher: Altium Limited; HelpURL: http://toolbox.xilinx.com/docsan/xilinx7/books/docs/lib/lib.pdf
pins: BREFCLKNIN (in), BREFCLKPIN (in), CHBONDDONE (out), CHBONDI[4..0] (in), CHBONDO[4..0] (out), ENCHANSYNC (in), ENMCOMMAALIGN (in), ENPCOMMAALIGN (in), LOOPBACK[1..0] (in), PMAINIT (in), PMAREGADDR[5..0] (in), PMAREGDATAIN[7..0] (in), PMAREGRW (in), PMAREGSTROBE (in), PMARXLOCK (out), PMARXLOCKSEL[1..0] (in), POWERDOWN (in), REFCLK (in), REFCLK2 (in), REFCLKBSEL (in), REFCLKSEL (in), RXBLOCKSYNC64B66BUSE (in), RXBUFSTATUS[1..0] (out), RXCHARISCOMMA[1..0] (out), RXCHARISK[1..0] (out), RXCHECKINGCRC (out), RXCLKCORCNT[2..0] (out), RXCOMMADET (out), RXCOMMADETUSE (in), RXCRCERR (out), RXDATA[15..0] (out), RXDATAWIDTH[1..0] (in), RXDEC8B10BUSE (in), RXDEC64B66BUSE (in), RXDESCRAM64B66BUSE (in), RXDISPERR[1..0] (out), RXIGNOREBTF (in), RXINTDATAWIDTH[1..0] (in), RXLOSSOFSYNC[1..0] (out), RXN (in), RXNOTINTABLE[1..0] (out), RXP (in), RXPOLARITY (in), RXREALIGN (out), RXRECCLK (out), RXRESET (in), RXRUNDISP[1..0] (out), RXSLIDE (in), RXUSRCLK (in), RXUSRCLK2 (in), TXBUFERR (out), TXBYPASS8B10B[1..0] (in), TXCHARDISPMODE[1..0] (in), TXCHARDISPVAL[1..0] (in), TXCHARISK[1..0] (in), TXDATA[15..0] (in), TXDATAWIDTH[1..0] (in), TXENC8B10BUSE (in), TXENC64B66BUSE (in), TXFORCECRCERR (in), TXGEARBOX64B66BUSE (in), TXINHIBIT (in), TXINTDATAWIDTH[1..0] (in), TXKERR[1..0] (out), TXN (out), TXOUTCLK (out), TXP (out), TXPOLARITY (in), TXRESET (in), TXRUNDISP[1..0] (out), TXSCRAM64B66BUSE (in), TXUSRCLK (in), TXUSRCLK2 (in)

## GT10_INFINIBAND_4
designator U?
10-Gigabit Transceiver for High-Speed I/O; FPGAVendor: Xilinx; Note: Supported for Virtex-II Pro X but not for Virtex-II or Virtex-II Pro.; Published: 15-Sep-2003; Publisher: Altium Limited; HelpURL: http://toolbox.xilinx.com/docsan/xilinx7/books/docs/lib/lib.pdf
pins: BREFCLKNIN (in), BREFCLKPIN (in), CHBONDDONE (out), CHBONDI[4..0] (in), CHBONDO[4..0] (out), ENCHANSYNC (in), ENMCOMMAALIGN (in), ENPCOMMAALIGN (in), LOOPBACK[1..0] (in), PMAINIT (in), PMAREGADDR[5..0] (in), PMAREGDATAIN[7..0] (in), PMAREGRW (in), PMAREGSTROBE (in), PMARXLOCK (out), PMARXLOCKSEL[1..0] (in), POWERDOWN (in), REFCLK (in), REFCLK2 (in), REFCLKBSEL (in), REFCLKSEL (in), RXBLOCKSYNC64B66BUSE (in), RXBUFSTATUS[1..0] (out), RXCHARISCOMMA[3..0] (out), RXCHARISK[3..0] (out), RXCHECKINGCRC (out), RXCLKCORCNT[2..0] (out), RXCOMMADET (out), RXCOMMADETUSE (in), RXCRCERR (out), RXDATA[31..0] (out), RXDATAWIDTH[1..0] (in), RXDEC8B10BUSE (in), RXDEC64B66BUSE (in), RXDESCRAM64B66BUSE (in), RXDISPERR[3..0] (out), RXIGNOREBTF (in), RXINTDATAWIDTH[1..0] (in), RXLOSSOFSYNC[1..0] (out), RXN (in), RXNOTINTABLE[3..0] (out), RXP (in), RXPOLARITY (in), RXREALIGN (out), RXRECCLK (out), RXRESET (in), RXRUNDISP[3..0] (out), RXSLIDE (in), RXUSRCLK (in), RXUSRCLK2 (in), TXBUFERR (out), TXBYPASS8B10B[3..0] (in), TXCHARDISPMODE[3..0] (in), TXCHARDISPVAL[3..0] (in), TXCHARISK[3..0] (in), TXDATA[31..0] (in), TXDATAWIDTH[1..0] (in), TXENC8B10BUSE (in), TXENC64B66BUSE (in), TXFORCECRCERR (in), TXGEARBOX64B66BUSE (in), TXINHIBIT (in), TXINTDATAWIDTH[1..0] (in), TXKERR[3..0] (out), TXN (out), TXOUTCLK (out), TXP (out), TXPOLARITY (in), TXRESET (in), TXRUNDISP[3..0] (out), TXSCRAM64B66BUSE (in), TXUSRCLK (in), TXUSRCLK2 (in)

## GT10_OC48_1
designator U?
10-Gigabit Transceiver for High-Speed I/O; FPGAVendor: Xilinx; Note: Supported for Virtex-II Pro X but not for Virtex-II or Virtex-II Pro.; Published: 15-Sep-2003; Publisher: Altium Limited; HelpURL: http://toolbox.xilinx.com/docsan/xilinx7/books/docs/lib/lib.pdf
pins: BREFCLKNIN (in), BREFCLKPIN (in), CHBONDDONE (out), CHBONDI[4..0] (in), CHBONDO[4..0] (out), ENCHANSYNC (in), ENMCOMMAALIGN (in), ENPCOMMAALIGN (in), LOOPBACK[1..0] (in), PMAINIT (in), PMAREGADDR[5..0] (in), PMAREGDATAIN[7..0] (in), PMAREGRW (in), PMAREGSTROBE (in), PMARXLOCK (out), PMARXLOCKSEL[1..0] (in), POWERDOWN (in), REFCLK (in), REFCLK2 (in), REFCLKBSEL (in), REFCLKSEL (in), RXBLOCKSYNC64B66BUSE (in), RXBUFSTATUS[1..0] (out), RXCHARISCOMMA[0..0] (out), RXCHARISK[0..0] (out), RXCHECKINGCRC (out), RXCLKCORCNT[2..0] (out), RXCOMMADET (out), RXCOMMADETUSE (in), RXCRCERR (out), RXDATA[7..0] (out), RXDATAWIDTH[1..0] (in), RXDEC8B10BUSE (in), RXDEC64B66BUSE (in), RXDESCRAM64B66BUSE (in), RXDISPERR[0..0] (out), RXIGNOREBTF (in), RXINTDATAWIDTH[1..0] (in), RXLOSSOFSYNC[1..0] (out), RXN (in), RXNOTINTABLE[0..0] (out), RXP (in), RXPOLARITY (in), RXREALIGN (out), RXRECCLK (out), RXRESET (in), RXRUNDISP[0..0] (out), RXSLIDE (in), RXUSRCLK (in), RXUSRCLK2 (in), TXBUFERR (out), TXBYPASS8B10B[0..0] (in), TXCHARDISPMODE[0..0] (in), TXCHARDISPVAL[0..0] (in), TXCHARISK[0..0] (in), TXDATA[7..0] (in), TXDATAWIDTH[1..0] (in), TXENC8B10BUSE (in), TXENC64B66BUSE (in), TXFORCECRCERR (in), TXGEARBOX64B66BUSE (in), TXINHIBIT (in), TXINTDATAWIDTH[1..0] (in), TXKERR[0..0] (out), TXN (out), TXOUTCLK (out), TXP (out), TXPOLARITY (in), TXRESET (in), TXRUNDISP[0..0] (out), TXSCRAM64B66BUSE (in), TXUSRCLK (in), TXUSRCLK2 (in)

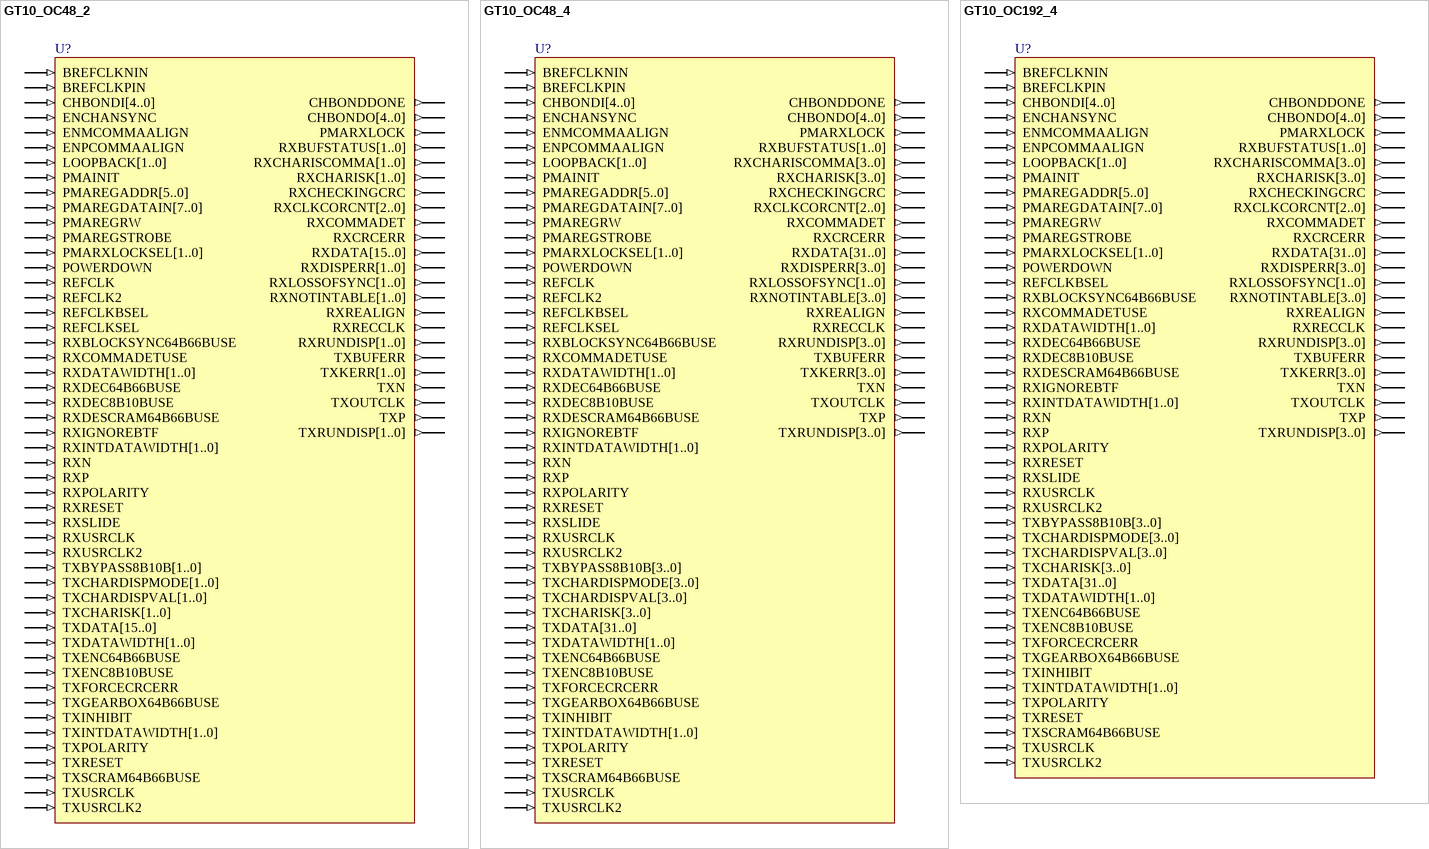
[diagram p10: symbols GT10_OC48_2 to GT10_OC192_4]

## GT10_OC48_2
designator U?
10-Gigabit Transceiver for High-Speed I/O; FPGAVendor: Xilinx; Note: Supported for Virtex-II Pro X but not for Virtex-II or Virtex-II Pro.; Published: 15-Sep-2003; Publisher: Altium Limited; HelpURL: http://toolbox.xilinx.com/docsan/xilinx7/books/docs/lib/lib.pdf
pins: BREFCLKNIN (in), BREFCLKPIN (in), CHBONDDONE (out), CHBONDI[4..0] (in), CHBONDO[4..0] (out), ENCHANSYNC (in), ENMCOMMAALIGN (in), ENPCOMMAALIGN (in), LOOPBACK[1..0] (in), PMAINIT (in), PMAREGADDR[5..0] (in), PMAREGDATAIN[7..0] (in), PMAREGRW (in), PMAREGSTROBE (in), PMARXLOCK (out), PMARXLOCKSEL[1..0] (in), POWERDOWN (in), REFCLK (in), REFCLK2 (in), REFCLKBSEL (in), REFCLKSEL (in), RXBLOCKSYNC64B66BUSE (in), RXBUFSTATUS[1..0] (out), RXCHARISCOMMA[1..0] (out), RXCHARISK[1..0] (out), RXCHECKINGCRC (out), RXCLKCORCNT[2..0] (out), RXCOMMADET (out), RXCOMMADETUSE (in), RXCRCERR (out), RXDATA[15..0] (out), RXDATAWIDTH[1..0] (in), RXDEC8B10BUSE (in), RXDEC64B66BUSE (in), RXDESCRAM64B66BUSE (in), RXDISPERR[1..0] (out), RXIGNOREBTF (in), RXINTDATAWIDTH[1..0] (in), RXLOSSOFSYNC[1..0] (out), RXN (in), RXNOTINTABLE[1..0] (out), RXP (in), RXPOLARITY (in), RXREALIGN (out), RXRECCLK (out), RXRESET (in), RXRUNDISP[1..0] (out), RXSLIDE (in), RXUSRCLK (in), RXUSRCLK2 (in), TXBUFERR (out), TXBYPASS8B10B[1..0] (in), TXCHARDISPMODE[1..0] (in), TXCHARDISPVAL[1..0] (in), TXCHARISK[1..0] (in), TXDATA[15..0] (in), TXDATAWIDTH[1..0] (in), TXENC8B10BUSE (in), TXENC64B66BUSE (in), TXFORCECRCERR (in), TXGEARBOX64B66BUSE (in), TXINHIBIT (in), TXINTDATAWIDTH[1..0] (in), TXKERR[1..0] (out), TXN (out), TXOUTCLK (out), TXP (out), TXPOLARITY (in), TXRESET (in), TXRUNDISP[1..0] (out), TXSCRAM64B66BUSE (in), TXUSRCLK (in), TXUSRCLK2 (in)

## GT10_OC48_4
designator U?
10-Gigabit Transceiver for High-Speed I/O; FPGAVendor: Xilinx; Note: Supported for Virtex-II Pro X but not for Virtex-II or Virtex-II Pro.; Published: 15-Sep-2003; Publisher: Altium Limited; HelpURL: http://toolbox.xilinx.com/docsan/xilinx7/books/docs/lib/lib.pdf
pins: BREFCLKNIN (in), BREFCLKPIN (in), CHBONDDONE (out), CHBONDI[4..0] (in), CHBONDO[4..0] (out), ENCHANSYNC (in), ENMCOMMAALIGN (in), ENPCOMMAALIGN (in), LOOPBACK[1..0] (in), PMAINIT (in), PMAREGADDR[5..0] (in), PMAREGDATAIN[7..0] (in), PMAREGRW (in), PMAREGSTROBE (in), PMARXLOCK (out), PMARXLOCKSEL[1..0] (in), POWERDOWN (in), REFCLK (in), REFCLK2 (in), REFCLKBSEL (in), REFCLKSEL (in), RXBLOCKSYNC64B66BUSE (in), RXBUFSTATUS[1..0] (out), RXCHARISCOMMA[3..0] (out), RXCHARISK[3..0] (out), RXCHECKINGCRC (out), RXCLKCORCNT[2..0] (out), RXCOMMADET (out), RXCOMMADETUSE (in), RXCRCERR (out), RXDATA[31..0] (out), RXDATAWIDTH[1..0] (in), RXDEC8B10BUSE (in), RXDEC64B66BUSE (in), RXDESCRAM64B66BUSE (in), RXDISPERR[3..0] (out), RXIGNOREBTF (in), RXINTDATAWIDTH[1..0] (in), RXLOSSOFSYNC[1..0] (out), RXN (in), RXNOTINTABLE[3..0] (out), RXP (in), RXPOLARITY (in), RXREALIGN (out), RXRECCLK (out), RXRESET (in), RXRUNDISP[3..0] (out), RXSLIDE (in), RXUSRCLK (in), RXUSRCLK2 (in), TXBUFERR (out), TXBYPASS8B10B[3..0] (in), TXCHARDISPMODE[3..0] (in), TXCHARDISPVAL[3..0] (in), TXCHARISK[3..0] (in), TXDATA[31..0] (in), TXDATAWIDTH[1..0] (in), TXENC8B10BUSE (in), TXENC64B66BUSE (in), TXFORCECRCERR (in), TXGEARBOX64B66BUSE (in), TXINHIBIT (in), TXINTDATAWIDTH[1..0] (in), TXKERR[3..0] (out), TXN (out), TXOUTCLK (out), TXP (out), TXPOLARITY (in), TXRESET (in), TXRUNDISP[3..0] (out), TXSCRAM64B66BUSE (in), TXUSRCLK (in), TXUSRCLK2 (in)

## GT10_OC192_4
designator U?
10-Gigabit Transceiver for High-Speed I/O; FPGAVendor: Xilinx; Note: Supported for Virtex-II Pro X but not for Virtex-II or Virtex-II Pro.; Published: 15-Sep-2003; Publisher: Altium Limited; HelpURL: http://toolbox.xilinx.com/docsan/xilinx7/books/docs/lib/lib.pdf
pins: BREFCLKNIN (in), BREFCLKPIN (in), CHBONDDONE (out), CHBONDI[4..0] (in), CHBONDO[4..0] (out), ENCHANSYNC (in), ENMCOMMAALIGN (in), ENPCOMMAALIGN (in), LOOPBACK[1..0] (in), PMAINIT (in), PMAREGADDR[5..0] (in), PMAREGDATAIN[7..0] (in), PMAREGRW (in), PMAREGSTROBE (in), PMARXLOCK (out), PMARXLOCKSEL[1..0] (in), POWERDOWN (in), REFCLKBSEL (in), RXBLOCKSYNC64B66BUSE (in), RXBUFSTATUS[1..0] (out), RXCHARISCOMMA[3..0] (out), RXCHARISK[3..0] (out), RXCHECKINGCRC (out), RXCLKCORCNT[2..0] (out), RXCOMMADET (out), RXCOMMADETUSE (in), RXCRCERR (out), RXDATA[31..0] (out), RXDATAWIDTH[1..0] (in), RXDEC8B10BUSE (in), RXDEC64B66BUSE (in), RXDESCRAM64B66BUSE (in), RXDISPERR[3..0] (out), RXIGNOREBTF (in), RXINTDATAWIDTH[1..0] (in), RXLOSSOFSYNC[1..0] (out), RXN (in), RXNOTINTABLE[3..0] (out), RXP (in), RXPOLARITY (in), RXREALIGN (out), RXRECCLK (out), RXRESET (in), RXRUNDISP[3..0] (out), RXSLIDE (in), RXUSRCLK (in), RXUSRCLK2 (in), TXBUFERR (out), TXBYPASS8B10B[3..0] (in), TXCHARDISPMODE[3..0] (in), TXCHARDISPVAL[3..0] (in), TXCHARISK[3..0] (in), TXDATA[31..0] (in), TXDATAWIDTH[1..0] (in), TXENC8B10BUSE (in), TXENC64B66BUSE (in), TXFORCECRCERR (in), TXGEARBOX64B66BUSE (in), TXINHIBIT (in), TXINTDATAWIDTH[1..0] (in), TXKERR[3..0] (out), TXN (out), TXOUTCLK (out), TXP (out), TXPOLARITY (in), TXRESET (in), TXRUNDISP[3..0] (out), TXSCRAM64B66BUSE (in), TXUSRCLK (in), TXUSRCLK2 (in)

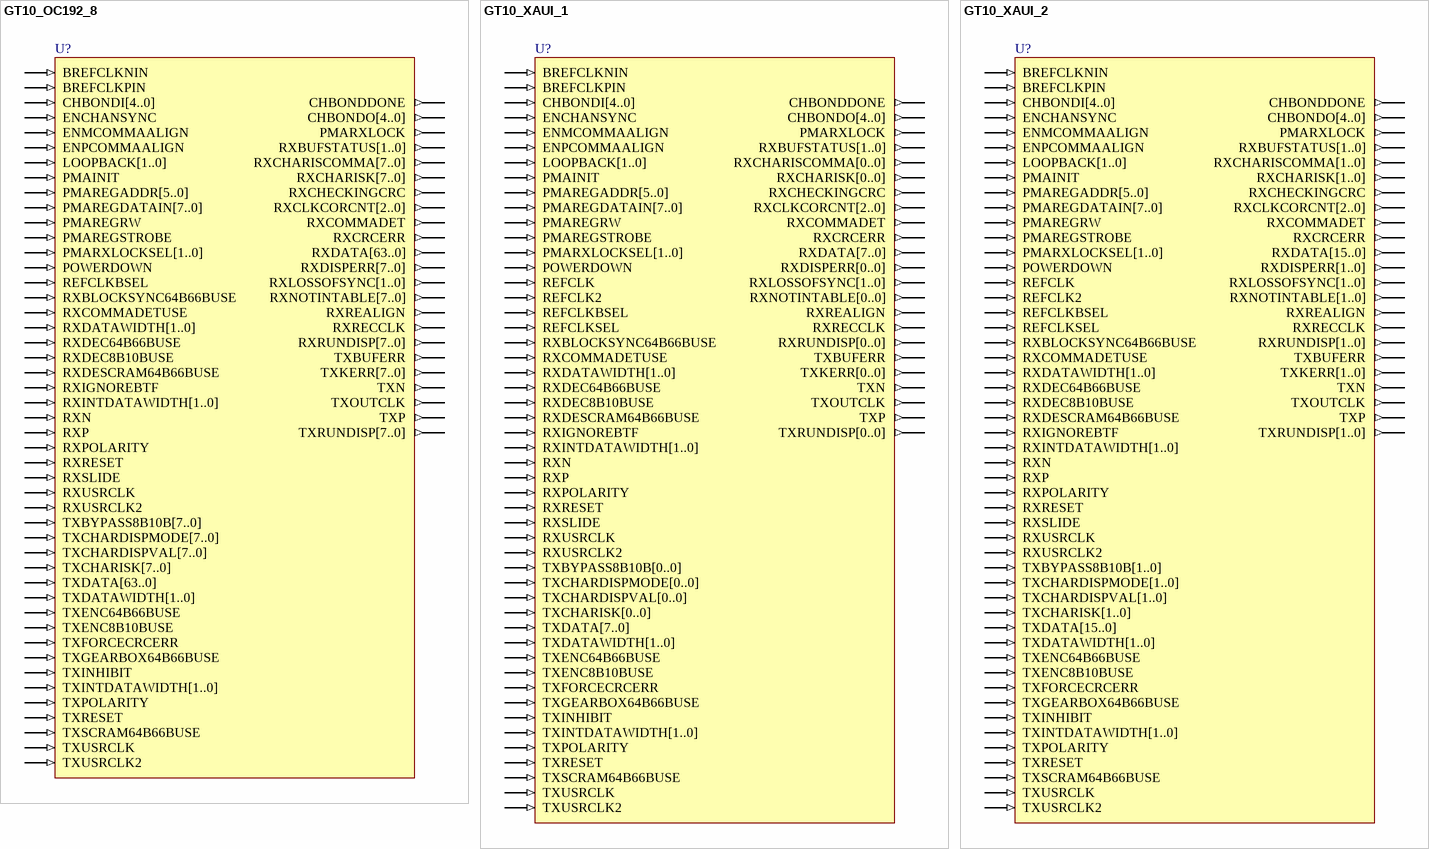
[diagram p11: symbols GT10_OC192_8 to GT10_XAUI_2]

## GT10_OC192_8
designator U?
10-Gigabit Transceiver for High-Speed I/O; FPGAVendor: Xilinx; Note: Supported for Virtex-II Pro X but not for Virtex-II or Virtex-II Pro.; Published: 15-Sep-2003; Publisher: Altium Limited; HelpURL: http://toolbox.xilinx.com/docsan/xilinx7/books/docs/lib/lib.pdf
pins: BREFCLKNIN (in), BREFCLKPIN (in), CHBONDDONE (out), CHBONDI[4..0] (in), CHBONDO[4..0] (out), ENCHANSYNC (in), ENMCOMMAALIGN (in), ENPCOMMAALIGN (in), LOOPBACK[1..0] (in), PMAINIT (in), PMAREGADDR[5..0] (in), PMAREGDATAIN[7..0] (in), PMAREGRW (in), PMAREGSTROBE (in), PMARXLOCK (out), PMARXLOCKSEL[1..0] (in), POWERDOWN (in), REFCLKBSEL (in), RXBLOCKSYNC64B66BUSE (in), RXBUFSTATUS[1..0] (out), RXCHARISCOMMA[7..0] (out), RXCHARISK[7..0] (out), RXCHECKINGCRC (out), RXCLKCORCNT[2..0] (out), RXCOMMADET (out), RXCOMMADETUSE (in), RXCRCERR (out), RXDATA[63..0] (out), RXDATAWIDTH[1..0] (in), RXDEC8B10BUSE (in), RXDEC64B66BUSE (in), RXDESCRAM64B66BUSE (in), RXDISPERR[7..0] (out), RXIGNOREBTF (in), RXINTDATAWIDTH[1..0] (in), RXLOSSOFSYNC[1..0] (out), RXN (in), RXNOTINTABLE[7..0] (out), RXP (in), RXPOLARITY (in), RXREALIGN (out), RXRECCLK (out), RXRESET (in), RXRUNDISP[7..0] (out), RXSLIDE (in), RXUSRCLK (in), RXUSRCLK2 (in), TXBUFERR (out), TXBYPASS8B10B[7..0] (in), TXCHARDISPMODE[7..0] (in), TXCHARDISPVAL[7..0] (in), TXCHARISK[7..0] (in), TXDATA[63..0] (in), TXDATAWIDTH[1..0] (in), TXENC8B10BUSE (in), TXENC64B66BUSE (in), TXFORCECRCERR (in), TXGEARBOX64B66BUSE (in), TXINHIBIT (in), TXINTDATAWIDTH[1..0] (in), TXKERR[7..0] (out), TXN (out), TXOUTCLK (out), TXP (out), TXPOLARITY (in), TXRESET (in), TXRUNDISP[7..0] (out), TXSCRAM64B66BUSE (in), TXUSRCLK (in), TXUSRCLK2 (in)

## GT10_XAUI_1
designator U?
10-Gigabit Transceiver for High-Speed I/O; FPGAVendor: Xilinx; Note: Supported for Virtex-II Pro X but not for Virtex-II or Virtex-II Pro.; Published: 15-Sep-2003; Publisher: Altium Limited; HelpURL: http://toolbox.xilinx.com/docsan/xilinx7/books/docs/lib/lib.pdf
pins: BREFCLKNIN (in), BREFCLKPIN (in), CHBONDDONE (out), CHBONDI[4..0] (in), CHBONDO[4..0] (out), ENCHANSYNC (in), ENMCOMMAALIGN (in), ENPCOMMAALIGN (in), LOOPBACK[1..0] (in), PMAINIT (in), PMAREGADDR[5..0] (in), PMAREGDATAIN[7..0] (in), PMAREGRW (in), PMAREGSTROBE (in), PMARXLOCK (out), PMARXLOCKSEL[1..0] (in), POWERDOWN (in), REFCLK (in), REFCLK2 (in), REFCLKBSEL (in), REFCLKSEL (in), RXBLOCKSYNC64B66BUSE (in), RXBUFSTATUS[1..0] (out), RXCHARISCOMMA[0..0] (out), RXCHARISK[0..0] (out), RXCHECKINGCRC (out), RXCLKCORCNT[2..0] (out), RXCOMMADET (out), RXCOMMADETUSE (in), RXCRCERR (out), RXDATA[7..0] (out), RXDATAWIDTH[1..0] (in), RXDEC8B10BUSE (in), RXDEC64B66BUSE (in), RXDESCRAM64B66BUSE (in), RXDISPERR[0..0] (out), RXIGNOREBTF (in), RXINTDATAWIDTH[1..0] (in), RXLOSSOFSYNC[1..0] (out), RXN (in), RXNOTINTABLE[0..0] (out), RXP (in), RXPOLARITY (in), RXREALIGN (out), RXRECCLK (out), RXRESET (in), RXRUNDISP[0..0] (out), RXSLIDE (in), RXUSRCLK (in), RXUSRCLK2 (in), TXBUFERR (out), TXBYPASS8B10B[0..0] (in), TXCHARDISPMODE[0..0] (in), TXCHARDISPVAL[0..0] (in), TXCHARISK[0..0] (in), TXDATA[7..0] (in), TXDATAWIDTH[1..0] (in), TXENC8B10BUSE (in), TXENC64B66BUSE (in), TXFORCECRCERR (in), TXGEARBOX64B66BUSE (in), TXINHIBIT (in), TXINTDATAWIDTH[1..0] (in), TXKERR[0..0] (out), TXN (out), TXOUTCLK (out), TXP (out), TXPOLARITY (in), TXRESET (in), TXRUNDISP[0..0] (out), TXSCRAM64B66BUSE (in), TXUSRCLK (in), TXUSRCLK2 (in)

## GT10_XAUI_2
designator U?
10-Gigabit Transceiver for High-Speed I/O; FPGAVendor: Xilinx; Note: Supported for Virtex-II Pro X but not for Virtex-II or Virtex-II Pro.; Published: 15-Sep-2003; Publisher: Altium Limited; HelpURL: http://toolbox.xilinx.com/docsan/xilinx7/books/docs/lib/lib.pdf
pins: BREFCLKNIN (in), BREFCLKPIN (in), CHBONDDONE (out), CHBONDI[4..0] (in), CHBONDO[4..0] (out), ENCHANSYNC (in), ENMCOMMAALIGN (in), ENPCOMMAALIGN (in), LOOPBACK[1..0] (in), PMAINIT (in), PMAREGADDR[5..0] (in), PMAREGDATAIN[7..0] (in), PMAREGRW (in), PMAREGSTROBE (in), PMARXLOCK (out), PMARXLOCKSEL[1..0] (in), POWERDOWN (in), REFCLK (in), REFCLK2 (in), REFCLKBSEL (in), REFCLKSEL (in), RXBLOCKSYNC64B66BUSE (in), RXBUFSTATUS[1..0] (out), RXCHARISCOMMA[1..0] (out), RXCHARISK[1..0] (out), RXCHECKINGCRC (out), RXCLKCORCNT[2..0] (out), RXCOMMADET (out), RXCOMMADETUSE (in), RXCRCERR (out), RXDATA[15..0] (out), RXDATAWIDTH[1..0] (in), RXDEC8B10BUSE (in), RXDEC64B66BUSE (in), RXDESCRAM64B66BUSE (in), RXDISPERR[1..0] (out), RXIGNOREBTF (in), RXINTDATAWIDTH[1..0] (in), RXLOSSOFSYNC[1..0] (out), RXN (in), RXNOTINTABLE[1..0] (out), RXP (in), RXPOLARITY (in), RXREALIGN (out), RXRECCLK (out), RXRESET (in), RXRUNDISP[1..0] (out), RXSLIDE (in), RXUSRCLK (in), RXUSRCLK2 (in), TXBUFERR (out), TXBYPASS8B10B[1..0] (in), TXCHARDISPMODE[1..0] (in), TXCHARDISPVAL[1..0] (in), TXCHARISK[1..0] (in), TXDATA[15..0] (in), TXDATAWIDTH[1..0] (in), TXENC8B10BUSE (in), TXENC64B66BUSE (in), TXFORCECRCERR (in), TXGEARBOX64B66BUSE (in), TXINHIBIT (in), TXINTDATAWIDTH[1..0] (in), TXKERR[1..0] (out), TXN (out), TXOUTCLK (out), TXP (out), TXPOLARITY (in), TXRESET (in), TXRUNDISP[1..0] (out), TXSCRAM64B66BUSE (in), TXUSRCLK (in), TXUSRCLK2 (in)

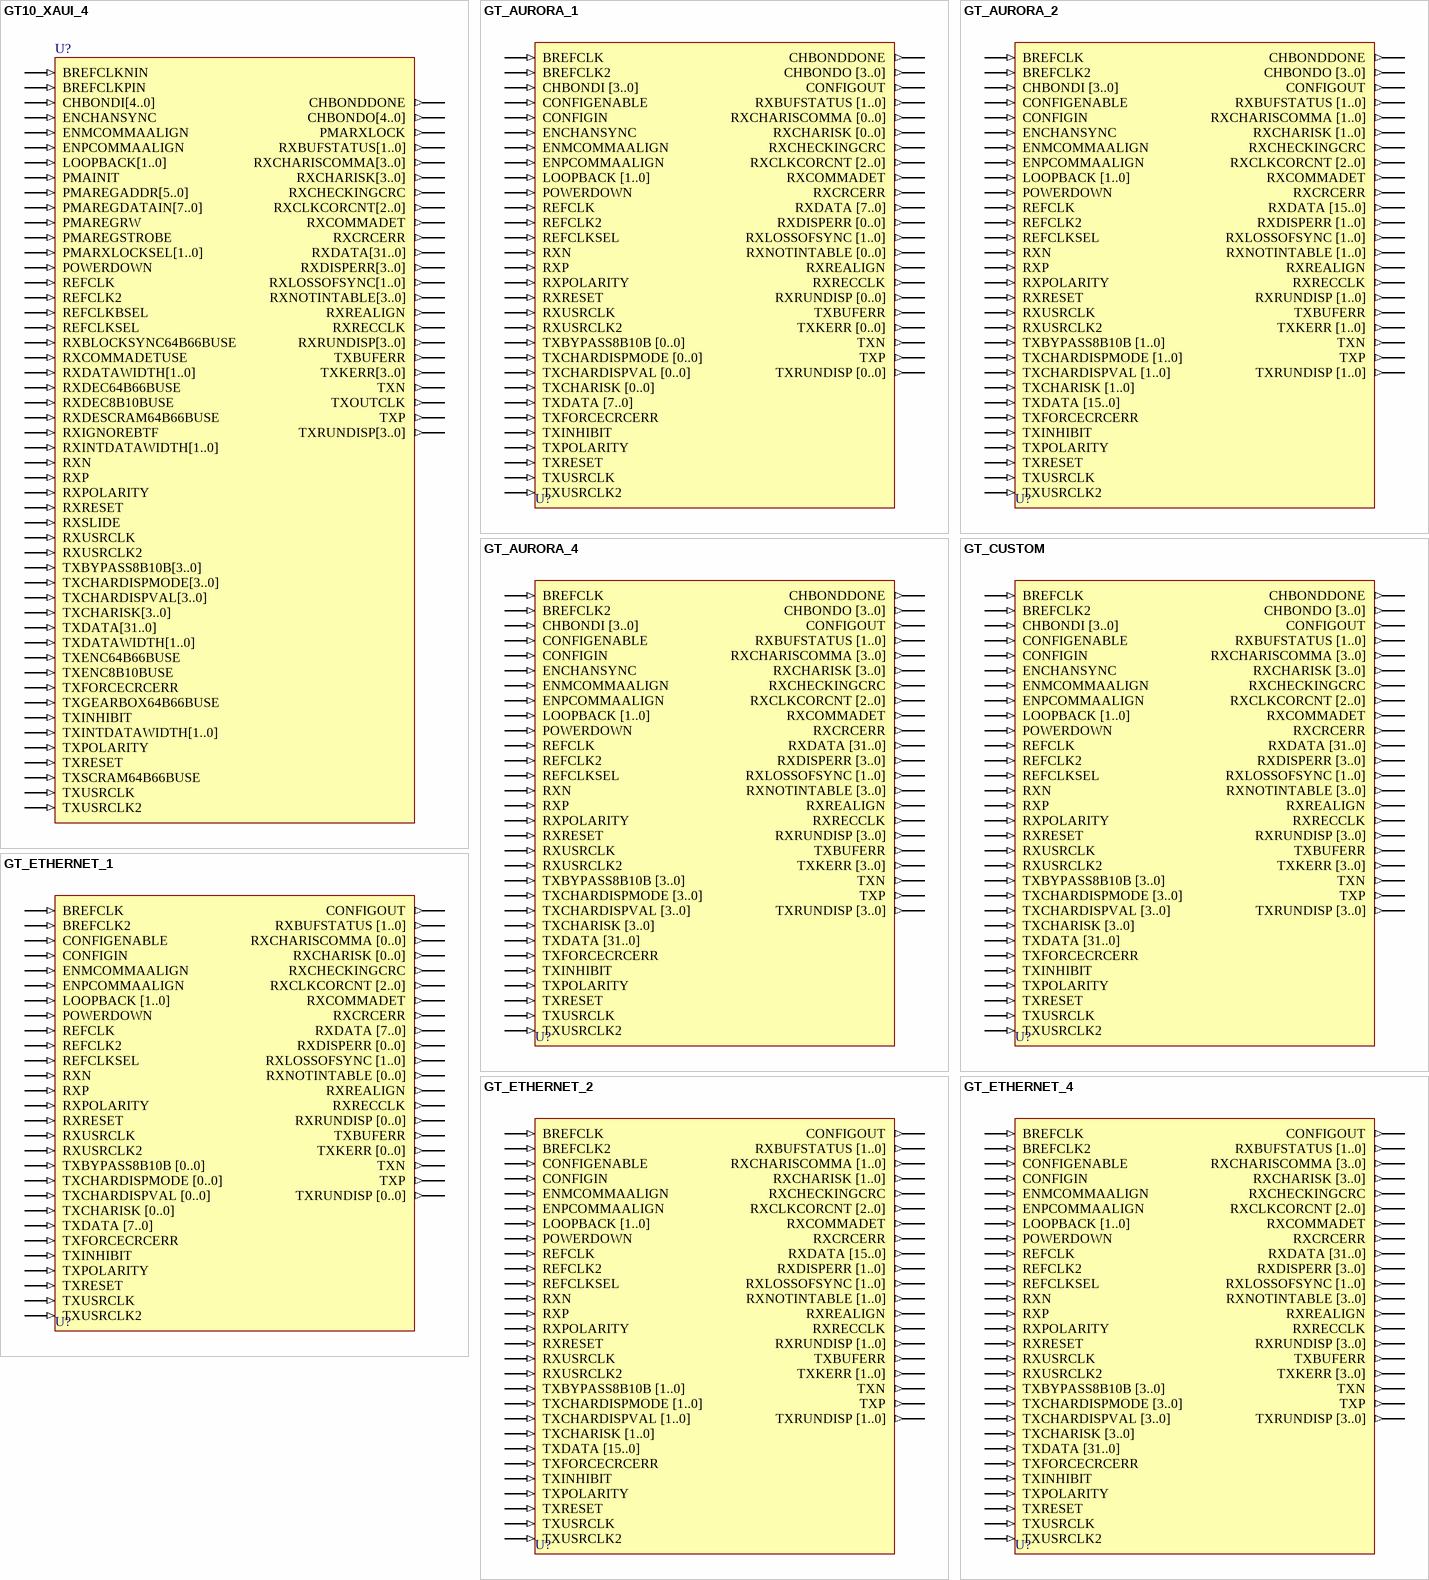
[diagram p12: symbols GT10_XAUI_4 to GT_ETHERNET_4]

## GT10_XAUI_4
designator U?
10-Gigabit Transceiver for High-Speed I/O; FPGAVendor: Xilinx; Note: Supported for Virtex-II Pro X but not for Virtex-II or Virtex-II Pro.; Published: 15-Sep-2003; Publisher: Altium Limited; HelpURL: http://toolbox.xilinx.com/docsan/xilinx7/books/docs/lib/lib.pdf
pins: BREFCLKNIN (in), BREFCLKPIN (in), CHBONDDONE (out), CHBONDI[4..0] (in), CHBONDO[4..0] (out), ENCHANSYNC (in), ENMCOMMAALIGN (in), ENPCOMMAALIGN (in), LOOPBACK[1..0] (in), PMAINIT (in), PMAREGADDR[5..0] (in), PMAREGDATAIN[7..0] (in), PMAREGRW (in), PMAREGSTROBE (in), PMARXLOCK (out), PMARXLOCKSEL[1..0] (in), POWERDOWN (in), REFCLK (in), REFCLK2 (in), REFCLKBSEL (in), REFCLKSEL (in), RXBLOCKSYNC64B66BUSE (in), RXBUFSTATUS[1..0] (out), RXCHARISCOMMA[3..0] (out), RXCHARISK[3..0] (out), RXCHECKINGCRC (out), RXCLKCORCNT[2..0] (out), RXCOMMADET (out), RXCOMMADETUSE (in), RXCRCERR (out), RXDATA[31..0] (out), RXDATAWIDTH[1..0] (in), RXDEC8B10BUSE (in), RXDEC64B66BUSE (in), RXDESCRAM64B66BUSE (in), RXDISPERR[3..0] (out), RXIGNOREBTF (in), RXINTDATAWIDTH[1..0] (in), RXLOSSOFSYNC[1..0] (out), RXN (in), RXNOTINTABLE[3..0] (out), RXP (in), RXPOLARITY (in), RXREALIGN (out), RXRECCLK (out), RXRESET (in), RXRUNDISP[3..0] (out), RXSLIDE (in), RXUSRCLK (in), RXUSRCLK2 (in), TXBUFERR (out), TXBYPASS8B10B[3..0] (in), TXCHARDISPMODE[3..0] (in), TXCHARDISPVAL[3..0] (in), TXCHARISK[3..0] (in), TXDATA[31..0] (in), TXDATAWIDTH[1..0] (in), TXENC8B10BUSE (in), TXENC64B66BUSE (in), TXFORCECRCERR (in), TXGEARBOX64B66BUSE (in), TXINHIBIT (in), TXINTDATAWIDTH[1..0] (in), TXKERR[3..0] (out), TXN (out), TXOUTCLK (out), TXP (out), TXPOLARITY (in), TXRESET (in), TXRUNDISP[3..0] (out), TXSCRAM64B66BUSE (in), TXUSRCLK (in), TXUSRCLK2 (in)

## GT_AURORA_1
designator U?
Gigabit Transceiver for High-Speed I/O; FPGAVendor: Xilinx; Note: Supported for Virtex-II Pro but not for Virtex-II or Virtex-II Pro X.; Published: 15-Sep-2003; Publisher: Altium Limited; HelpURL: http://toolbox.xilinx.com/docsan/xilinx7/books/docs/lib/lib.pdf
pins: BREFCLK (in), BREFCLK2 (in), CHBONDDONE (out), CHBONDI [3..0] (in), CHBONDO [3..0] (out), CONFIGENABLE (in), CONFIGIN (in), CONFIGOUT (out), ENCHANSYNC (in), ENMCOMMAALIGN (in), ENPCOMMAALIGN (in), LOOPBACK [1..0] (in), POWERDOWN (in), REFCLK (in), REFCLK2 (in), REFCLKSEL (in), RXBUFSTATUS [1..0] (out), RXCHARISCOMMA [0..0] (out), RXCHARISK [0..0] (out), RXCHECKINGCRC (out), RXCLKCORCNT [2..0] (out), RXCOMMADET (out), RXCRCERR (out), RXDATA [7..0] (out), RXDISPERR [0..0] (out), RXLOSSOFSYNC [1..0] (out), RXN (in), RXNOTINTABLE [0..0] (out), RXP (in), RXPOLARITY (in), RXREALIGN (out), RXRECCLK (out), RXRESET (in), RXRUNDISP [0..0] (out), RXUSRCLK (in), RXUSRCLK2 (in), TXBUFERR (out), TXBYPASS8B10B [0..0] (in), TXCHARDISPMODE [0..0] (in), TXCHARDISPVAL [0..0] (in), TXCHARISK [0..0] (in), TXDATA [7..0] (in), TXFORCECRCERR (in), TXINHIBIT (in), TXKERR [0..0] (out), TXN (out), TXP (out), TXPOLARITY (in), TXRESET (in), TXRUNDISP [0..0] (out), TXUSRCLK (in), TXUSRCLK2 (in)

## GT_AURORA_2
designator U?
Gigabit Transceiver for High-Speed I/O; FPGAVendor: Xilinx; Note: Supported for Virtex-II Pro but not for Virtex-II or Virtex-II Pro X.; Published: 15-Sep-2003; Publisher: Altium Limited; HelpURL: http://toolbox.xilinx.com/docsan/xilinx7/books/docs/lib/lib.pdf
pins: BREFCLK (in), BREFCLK2 (in), CHBONDDONE (out), CHBONDI [3..0] (in), CHBONDO [3..0] (out), CONFIGENABLE (in), CONFIGIN (in), CONFIGOUT (out), ENCHANSYNC (in), ENMCOMMAALIGN (in), ENPCOMMAALIGN (in), LOOPBACK [1..0] (in), POWERDOWN (in), REFCLK (in), REFCLK2 (in), REFCLKSEL (in), RXBUFSTATUS [1..0] (out), RXCHARISCOMMA [1..0] (out), RXCHARISK [1..0] (out), RXCHECKINGCRC (out), RXCLKCORCNT [2..0] (out), RXCOMMADET (out), RXCRCERR (out), RXDATA [15..0] (out), RXDISPERR [1..0] (out), RXLOSSOFSYNC [1..0] (out), RXN (in), RXNOTINTABLE [1..0] (out), RXP (in), RXPOLARITY (in), RXREALIGN (out), RXRECCLK (out), RXRESET (in), RXRUNDISP [1..0] (out), RXUSRCLK (in), RXUSRCLK2 (in), TXBUFERR (out), TXBYPASS8B10B [1..0] (in), TXCHARDISPMODE [1..0] (in), TXCHARDISPVAL [1..0] (in), TXCHARISK [1..0] (in), TXDATA [15..0] (in), TXFORCECRCERR (in), TXINHIBIT (in), TXKERR [1..0] (out), TXN (out), TXP (out), TXPOLARITY (in), TXRESET (in), TXRUNDISP [1..0] (out), TXUSRCLK (in), TXUSRCLK2 (in)

## GT_AURORA_4
designator U?
Gigabit Transceiver for High-Speed I/O; FPGAVendor: Xilinx; Note: Supported for Virtex-II Pro but not for Virtex-II or Virtex-II Pro X.; Published: 15-Sep-2003; Publisher: Altium Limited; HelpURL: http://toolbox.xilinx.com/docsan/xilinx7/books/docs/lib/lib.pdf
pins: BREFCLK (in), BREFCLK2 (in), CHBONDDONE (out), CHBONDI [3..0] (in), CHBONDO [3..0] (out), CONFIGENABLE (in), CONFIGIN (in), CONFIGOUT (out), ENCHANSYNC (in), ENMCOMMAALIGN (in), ENPCOMMAALIGN (in), LOOPBACK [1..0] (in), POWERDOWN (in), REFCLK (in), REFCLK2 (in), REFCLKSEL (in), RXBUFSTATUS [1..0] (out), RXCHARISCOMMA [3..0] (out), RXCHARISK [3..0] (out), RXCHECKINGCRC (out), RXCLKCORCNT [2..0] (out), RXCOMMADET (out), RXCRCERR (out), RXDATA [31..0] (out), RXDISPERR [3..0] (out), RXLOSSOFSYNC [1..0] (out), RXN (in), RXNOTINTABLE [3..0] (out), RXP (in), RXPOLARITY (in), RXREALIGN (out), RXRECCLK (out), RXRESET (in), RXRUNDISP [3..0] (out), RXUSRCLK (in), RXUSRCLK2 (in), TXBUFERR (out), TXBYPASS8B10B [3..0] (in), TXCHARDISPMODE [3..0] (in), TXCHARDISPVAL [3..0] (in), TXCHARISK [3..0] (in), TXDATA [31..0] (in), TXFORCECRCERR (in), TXINHIBIT (in), TXKERR [3..0] (out), TXN (out), TXP (out), TXPOLARITY (in), TXRESET (in), TXRUNDISP [3..0] (out), TXUSRCLK (in), TXUSRCLK2 (in)

## GT_CUSTOM
designator U?
Gigabit Transceiver for High-Speed I/O; FPGAVendor: Xilinx; Note: Supported for Virtex-II Pro but not for Virtex-II or Virtex-II Pro X.; Published: 15-Sep-2003; Publisher: Altium Limited; HelpURL: http://toolbox.xilinx.com/docsan/xilinx7/books/docs/lib/lib.pdf
pins: BREFCLK (in), BREFCLK2 (in), CHBONDDONE (out), CHBONDI [3..0] (in), CHBONDO [3..0] (out), CONFIGENABLE (in), CONFIGIN (in), CONFIGOUT (out), ENCHANSYNC (in), ENMCOMMAALIGN (in), ENPCOMMAALIGN (in), LOOPBACK [1..0] (in), POWERDOWN (in), REFCLK (in), REFCLK2 (in), REFCLKSEL (in), RXBUFSTATUS [1..0] (out), RXCHARISCOMMA [3..0] (out), RXCHARISK [3..0] (out), RXCHECKINGCRC (out), RXCLKCORCNT [2..0] (out), RXCOMMADET (out), RXCRCERR (out), RXDATA [31..0] (out), RXDISPERR [3..0] (out), RXLOSSOFSYNC [1..0] (out), RXN (in), RXNOTINTABLE [3..0] (out), RXP (in), RXPOLARITY (in), RXREALIGN (out), RXRECCLK (out), RXRESET (in), RXRUNDISP [3..0] (out), RXUSRCLK (in), RXUSRCLK2 (in), TXBUFERR (out), TXBYPASS8B10B [3..0] (in), TXCHARDISPMODE [3..0] (in), TXCHARDISPVAL [3..0] (in), TXCHARISK [3..0] (in), TXDATA [31..0] (in), TXFORCECRCERR (in), TXINHIBIT (in), TXKERR [3..0] (out), TXN (out), TXP (out), TXPOLARITY (in), TXRESET (in), TXRUNDISP [3..0] (out), TXUSRCLK (in), TXUSRCLK2 (in)

## GT_ETHERNET_1
designator U?
Gigabit Transceiver for High-Speed I/O; FPGAVendor: Xilinx; Note: Supported for Virtex-II Pro but not for Virtex-II or Virtex-II Pro X.; Published: 15-Sep-2003; Publisher: Altium Limited; HelpURL: http://toolbox.xilinx.com/docsan/xilinx7/books/docs/lib/lib.pdf
pins: BREFCLK (in), BREFCLK2 (in), CONFIGENABLE (in), CONFIGIN (in), CONFIGOUT (out), ENMCOMMAALIGN (in), ENPCOMMAALIGN (in), LOOPBACK [1..0] (in), POWERDOWN (in), REFCLK (in), REFCLK2 (in), REFCLKSEL (in), RXBUFSTATUS [1..0] (out), RXCHARISCOMMA [0..0] (out), RXCHARISK [0..0] (out), RXCHECKINGCRC (out), RXCLKCORCNT [2..0] (out), RXCOMMADET (out), RXCRCERR (out), RXDATA [7..0] (out), RXDISPERR [0..0] (out), RXLOSSOFSYNC [1..0] (out), RXN (in), RXNOTINTABLE [0..0] (out), RXP (in), RXPOLARITY (in), RXREALIGN (out), RXRECCLK (out), RXRESET (in), RXRUNDISP [0..0] (out), RXUSRCLK (in), RXUSRCLK2 (in), TXBUFERR (out), TXBYPASS8B10B [0..0] (in), TXCHARDISPMODE [0..0] (in), TXCHARDISPVAL [0..0] (in), TXCHARISK [0..0] (in), TXDATA [7..0] (in), TXFORCECRCERR (in), TXINHIBIT (in), TXKERR [0..0] (out), TXN (out), TXP (out), TXPOLARITY (in), TXRESET (in), TXRUNDISP [0..0] (out), TXUSRCLK (in), TXUSRCLK2 (in)

## GT_ETHERNET_2
designator U?
Gigabit Transceiver for High-Speed I/O; FPGAVendor: Xilinx; Note: Supported for Virtex-II Pro but not for Virtex-II or Virtex-II Pro X.; Published: 15-Sep-2003; Publisher: Altium Limited; HelpURL: http://toolbox.xilinx.com/docsan/xilinx7/books/docs/lib/lib.pdf
pins: BREFCLK (in), BREFCLK2 (in), CONFIGENABLE (in), CONFIGIN (in), CONFIGOUT (out), ENMCOMMAALIGN (in), ENPCOMMAALIGN (in), LOOPBACK [1..0] (in), POWERDOWN (in), REFCLK (in), REFCLK2 (in), REFCLKSEL (in), RXBUFSTATUS [1..0] (out), RXCHARISCOMMA [1..0] (out), RXCHARISK [1..0] (out), RXCHECKINGCRC (out), RXCLKCORCNT [2..0] (out), RXCOMMADET (out), RXCRCERR (out), RXDATA [15..0] (out), RXDISPERR [1..0] (out), RXLOSSOFSYNC [1..0] (out), RXN (in), RXNOTINTABLE [1..0] (out), RXP (in), RXPOLARITY (in), RXREALIGN (out), RXRECCLK (out), RXRESET (in), RXRUNDISP [1..0] (out), RXUSRCLK (in), RXUSRCLK2 (in), TXBUFERR (out), TXBYPASS8B10B [1..0] (in), TXCHARDISPMODE [1..0] (in), TXCHARDISPVAL [1..0] (in), TXCHARISK [1..0] (in), TXDATA [15..0] (in), TXFORCECRCERR (in), TXINHIBIT (in), TXKERR [1..0] (out), TXN (out), TXP (out), TXPOLARITY (in), TXRESET (in), TXRUNDISP [1..0] (out), TXUSRCLK (in), TXUSRCLK2 (in)